# Altium schematic symbol library dungvh03-CERN_Connectors.SchLib: 576 symbols (part 2 of 8)
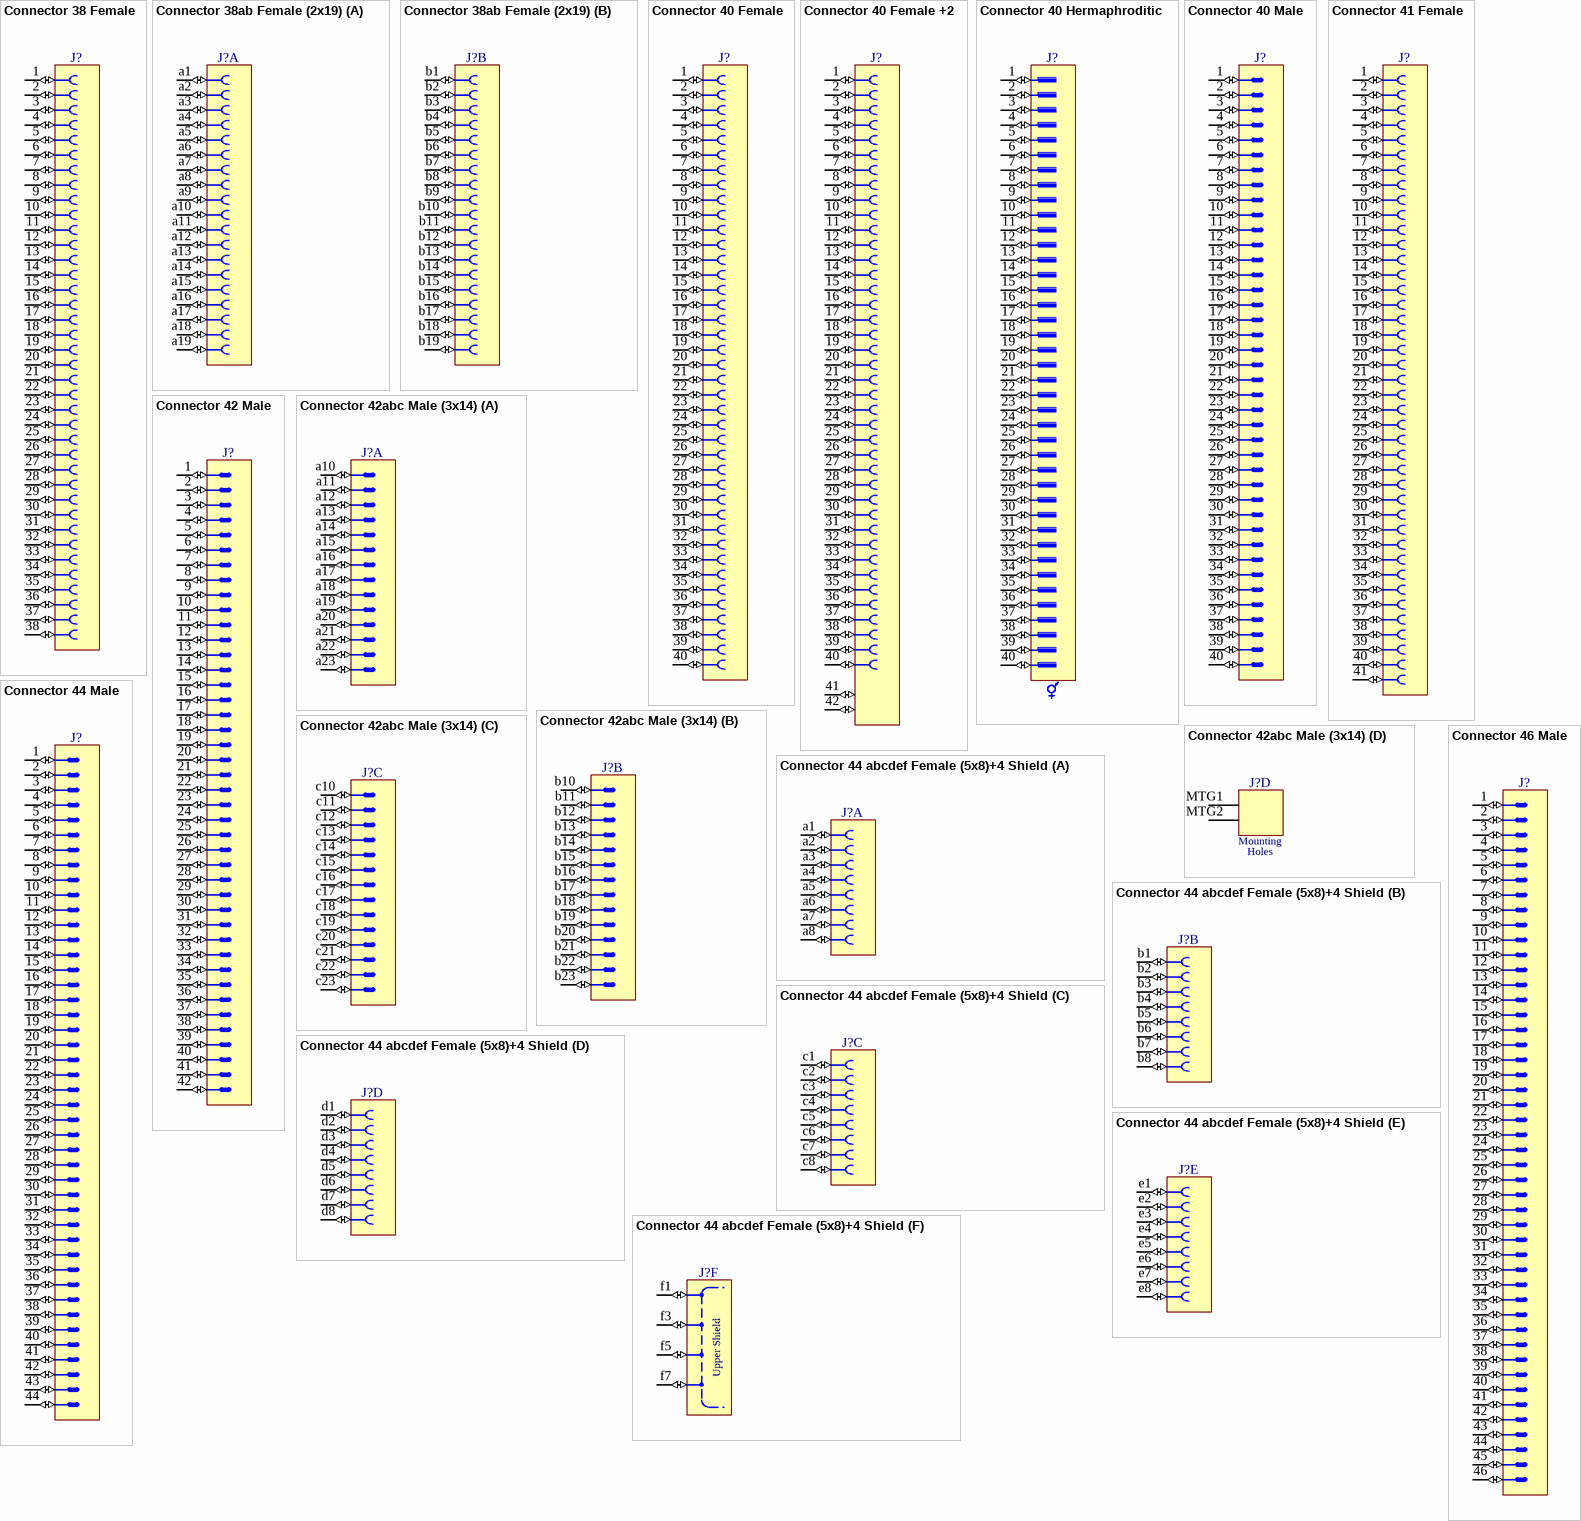
[diagram p76: symbols Connector 38 Female to Connector 46 Male]

## Connector 44 Male
designator J?
Connector 44 Male
pins: 1 (io), 2 (io), 3 (io), 4 (io), 5 (io), 6 (io), 7 (io), 8 (io), 9 (io), 10 (io), 11 (io), 12 (io), 13 (io), 14 (io), 15 (io), 16 (io), 17 (io), 18 (io), 19 (io), 20 (io), 21 (io), 22 (io), 23 (io), 24 (io), 25 (io), 26 (io), 27 (io), 28 (io), 29 (io), 30 (io), 31 (io), 32 (io), 33 (io), 34 (io), 35 (io), 36 (io), 37 (io), 38 (io), 39 (io), 40 (io), 41 (io), 42 (io), 43 (io), 44 (io)
1 alternate drawing of the same symbol

## Connector 46 Male
designator J?
Connector 46 Male
pins: 1 (io), 2 (io), 3 (io), 4 (io), 5 (io), 6 (io), 7 (io), 8 (io), 9 (io), 10 (io), 11 (io), 12 (io), 13 (io), 14 (io), 15 (io), 16 (io), 17 (io), 18 (io), 19 (io), 20 (io), 21 (io), 22 (io), 23 (io), 24 (io), 25 (io), 26 (io), 27 (io), 28 (io), 29 (io), 30 (io), 31 (io), 32 (io), 33 (io), 34 (io), 35 (io), 36 (io), 37 (io), 38 (io), 39 (io), 40 (io), 41 (io), 42 (io), 43 (io), 44 (io), 45 (io), 46 (io)
1 alternate drawing of the same symbol

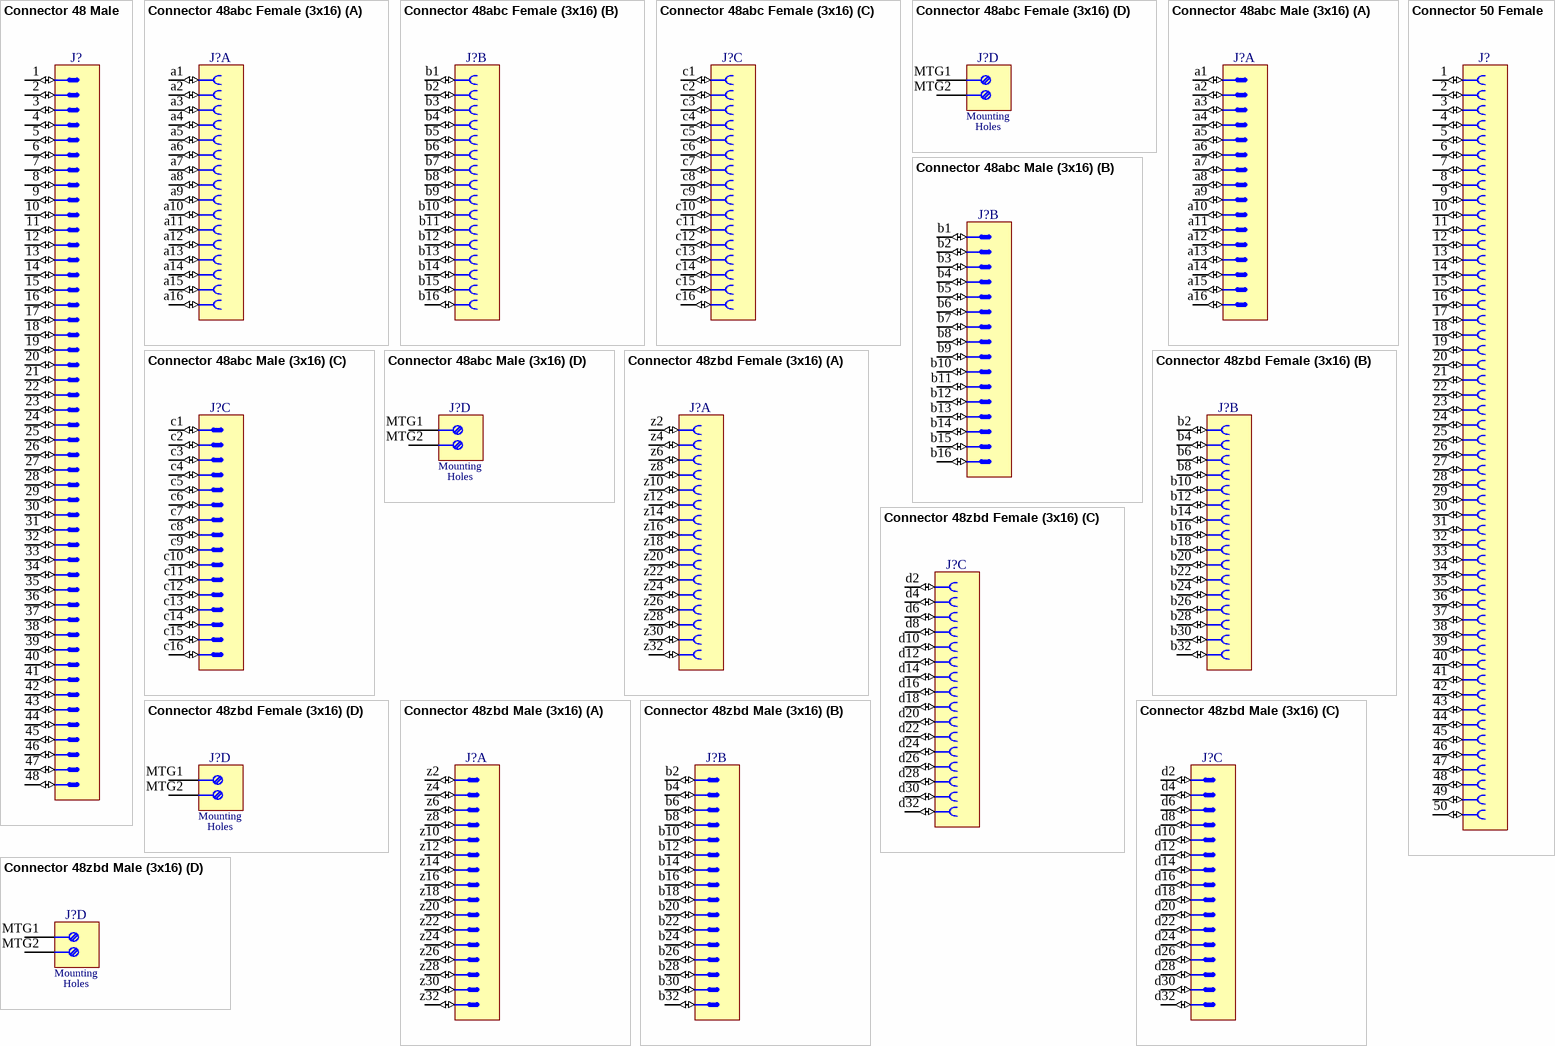
[diagram p9: symbols Connector 48 Male to Connector 50 Female]

## Connector 48 Male
designator J?
Connector 48 Male
pins: 1 (io), 2 (io), 3 (io), 4 (io), 5 (io), 6 (io), 7 (io), 8 (io), 9 (io), 10 (io), 11 (io), 12 (io), 13 (io), 14 (io), 15 (io), 16 (io), 17 (io), 18 (io), 19 (io), 20 (io), 21 (io), 22 (io), 23 (io), 24 (io), 25 (io), 26 (io), 27 (io), 28 (io), 29 (io), 30 (io), 31 (io), 32 (io), 33 (io), 34 (io), 35 (io), 36 (io), 37 (io), 38 (io), 39 (io), 40 (io), 41 (io), 42 (io), 43 (io), 44 (io), 45 (io), 46 (io), 47 (io), 48 (io)
1 alternate drawing of the same symbol

## Connector 48abc Female (3x16)
designator J?
Connector 48abc Female (3x16)
part A pins: a1 (io), a2 (io), a3 (io), a4 (io), a5 (io), a6 (io), a7 (io), a8 (io), a9 (io), a10 (io), a11 (io), a12 (io), a13 (io), a14 (io), a15 (io), a16 (io)
part B pins: b1 (io), b2 (io), b3 (io), b4 (io), b5 (io), b6 (io), b7 (io), b8 (io), b9 (io), b10 (io), b11 (io), b12 (io), b13 (io), b14 (io), b15 (io), b16 (io)
part C pins: c1 (io), c2 (io), c3 (io), c4 (io), c5 (io), c6 (io), c7 (io), c8 (io), c9 (io), c10 (io), c11 (io), c12 (io), c13 (io), c14 (io), c15 (io), c16 (io)
part D pins: MTG1 "Mounting Fixture", MTG2 "Mounting Fixture"
part D text: Mounting; Holes

## Connector 48abc Male (3x16)
designator J?
Connector 48abc Male (3x16)
part A pins: a1 (io), a2 (io), a3 (io), a4 (io), a5 (io), a6 (io), a7 (io), a8 (io), a9 (io), a10 (io), a11 (io), a12 (io), a13 (io), a14 (io), a15 (io), a16 (io)
part B pins: b1 (io), b2 (io), b3 (io), b4 (io), b5 (io), b6 (io), b7 (io), b8 (io), b9 (io), b10 (io), b11 (io), b12 (io), b13 (io), b14 (io), b15 (io), b16 (io)
part C pins: c1 (io), c2 (io), c3 (io), c4 (io), c5 (io), c6 (io), c7 (io), c8 (io), c9 (io), c10 (io), c11 (io), c12 (io), c13 (io), c14 (io), c15 (io), c16 (io)
part D pins: MTG1 "Mounting Fixture", MTG2 "Mounting Fixture"
part D text: Mounting; Holes

## Connector 48zbd Female (3x16)
designator J?
Connector 48zbd Female, DIN 41612 Type F
part A pins: z2 (io), z4 (io), z6 (io), z8 (io), z10 (io), z12 (io), z14 (io), z16 (io), z18 (io), z20 (io), z22 (io), z24 (io), z26 (io), z28 (io), z30 (io), z32 (io)
part B pins: b2 (io), b4 (io), b6 (io), b8 (io), b10 (io), b12 (io), b14 (io), b16 (io), b18 (io), b20 (io), b22 (io), b24 (io), b26 (io), b28 (io), b30 (io), b32 (io)
part C pins: d2 (io), d4 (io), d6 (io), d8 (io), d10 (io), d12 (io), d14 (io), d16 (io), d18 (io), d20 (io), d22 (io), d24 (io), d26 (io), d28 (io), d30 (io), d32 (io)
part D pins: MTG1 "Mounting Fixture", MTG2 "Mounting Fixture"
part D text: Mounting; Holes

## Connector 48zbd Male (3x16)
designator J?
Connector 48zbd Male, DIN 41612 Type F
part A pins: z2 (io), z4 (io), z6 (io), z8 (io), z10 (io), z12 (io), z14 (io), z16 (io), z18 (io), z20 (io), z22 (io), z24 (io), z26 (io), z28 (io), z30 (io), z32 (io)
part B pins: b2 (io), b4 (io), b6 (io), b8 (io), b10 (io), b12 (io), b14 (io), b16 (io), b18 (io), b20 (io), b22 (io), b24 (io), b26 (io), b28 (io), b30 (io), b32 (io)
part C pins: d2 (io), d4 (io), d6 (io), d8 (io), d10 (io), d12 (io), d14 (io), d16 (io), d18 (io), d20 (io), d22 (io), d24 (io), d26 (io), d28 (io), d30 (io), d32 (io)
part D pins: MTG1 "Mounting Fixture", MTG2 "Mounting Fixture"
part D text: Mounting; Holes

## Connector 50 Female
designator J?
Connector 50 Female
pins: 1 (io), 2 (io), 3 (io), 4 (io), 5 (io), 6 (io), 7 (io), 8 (io), 9 (io), 10 (io), 11 (io), 12 (io), 13 (io), 14 (io), 15 (io), 16 (io), 17 (io), 18 (io), 19 (io), 20 (io), 21 (io), 22 (io), 23 (io), 24 (io), 25 (io), 26 (io), 27 (io), 28 (io), 29 (io), 30 (io), 31 (io), 32 (io), 33 (io), 34 (io), 35 (io), 36 (io), 37 (io), 38 (io), 39 (io), 40 (io), 41 (io), 42 (io), 43 (io), 44 (io), 45 (io), 46 (io), 47 (io), 48 (io), 49 (io), 50 (io)
1 alternate drawing of the same symbol

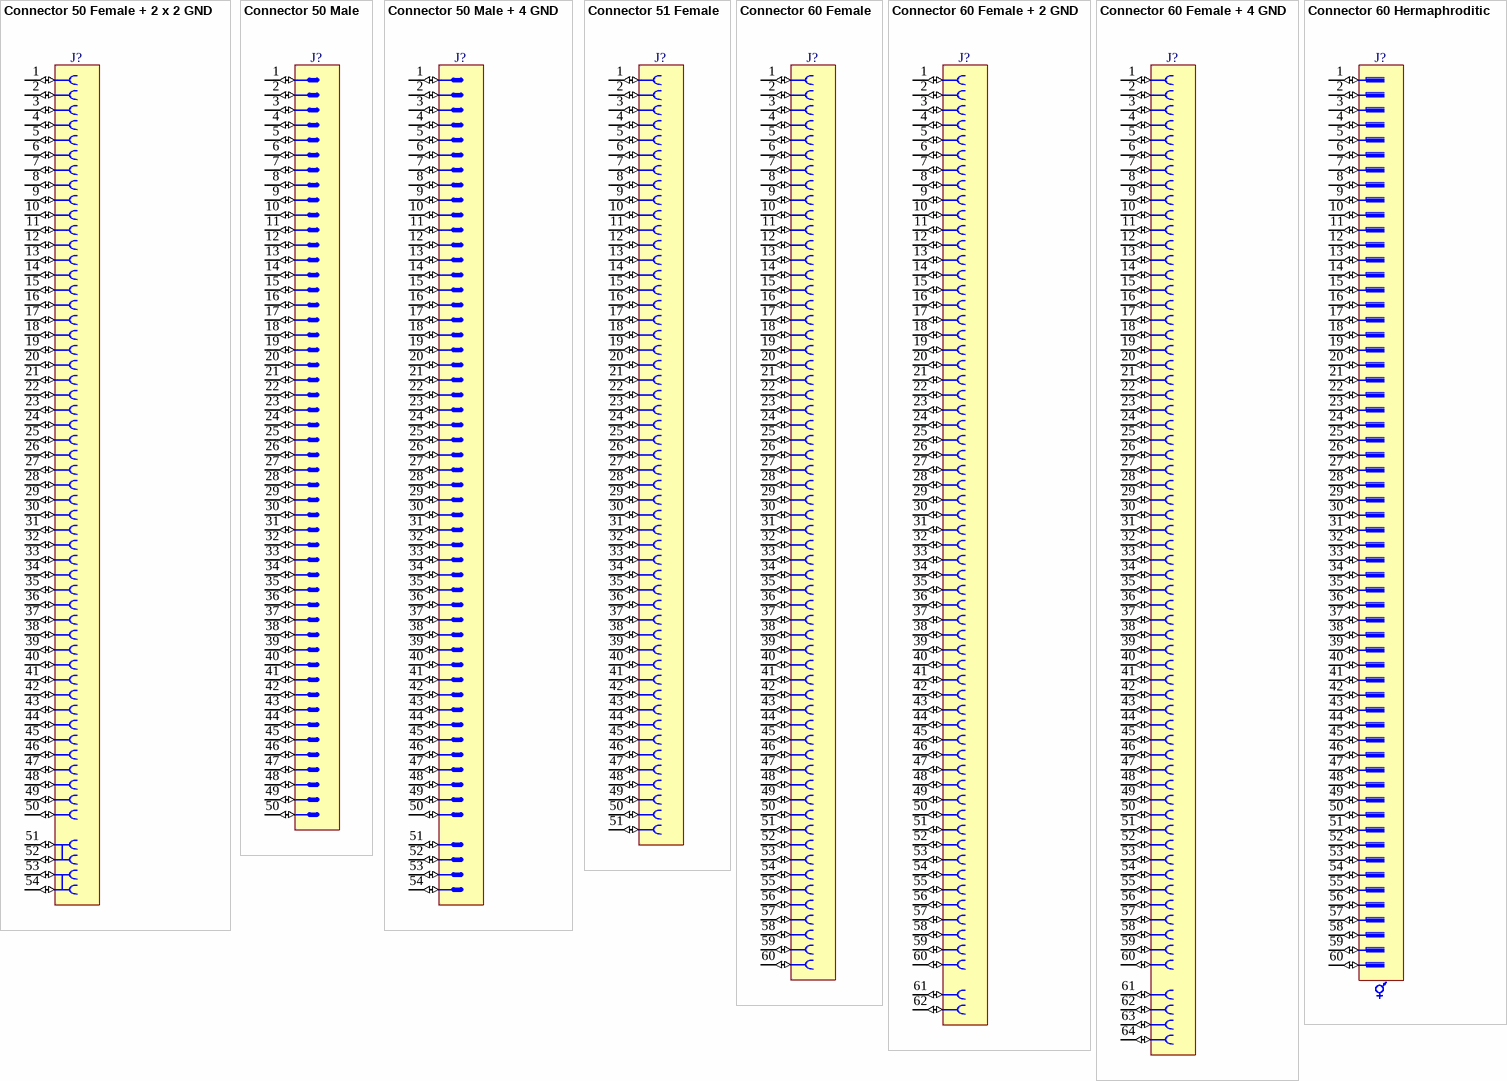
[diagram p10: symbols Connector 50 Female + 2 x 2 GND to Connector 60 Hermaphroditic]

## Connector 50 Female + 2 x 2 GND
designator J?
Connector 50 Female + 2 x 2 GND
pins: 1 (io), 2 (io), 3 (io), 4 (io), 5 (io), 6 (io), 7 (io), 8 (io), 9 (io), 10 (io), 11 (io), 12 (io), 13 (io), 14 (io), 15 (io), 16 (io), 17 (io), 18 (io), 19 (io), 20 (io), 21 (io), 22 (io), 23 (io), 24 (io), 25 (io), 26 (io), 27 (io), 28 (io), 29 (io), 30 (io), 31 (io), 32 (io), 33 (io), 34 (io), 35 (io), 36 (io), 37 (io), 38 (io), 39 (io), 40 (io), 41 (io), 42 (io), 43 (io), 44 (io), 45 (io), 46 (io), 47 (io), 48 (io), 49 (io), 50 (io), 51 (io), 52 (io), 53 (io), 54 (io)
1 alternate drawing of the same symbol

## Connector 50 Male
designator J?
Connector 50 Male
pins: 1 (io), 2 (io), 3 (io), 4 (io), 5 (io), 6 (io), 7 (io), 8 (io), 9 (io), 10 (io), 11 (io), 12 (io), 13 (io), 14 (io), 15 (io), 16 (io), 17 (io), 18 (io), 19 (io), 20 (io), 21 (io), 22 (io), 23 (io), 24 (io), 25 (io), 26 (io), 27 (io), 28 (io), 29 (io), 30 (io), 31 (io), 32 (io), 33 (io), 34 (io), 35 (io), 36 (io), 37 (io), 38 (io), 39 (io), 40 (io), 41 (io), 42 (io), 43 (io), 44 (io), 45 (io), 46 (io), 47 (io), 48 (io), 49 (io), 50 (io)
1 alternate drawing of the same symbol

## Connector 50 Male + 4 GND
designator J?
Connector 50 Male + 4 GND
pins: 1 (io), 2 (io), 3 (io), 4 (io), 5 (io), 6 (io), 7 (io), 8 (io), 9 (io), 10 (io), 11 (io), 12 (io), 13 (io), 14 (io), 15 (io), 16 (io), 17 (io), 18 (io), 19 (io), 20 (io), 21 (io), 22 (io), 23 (io), 24 (io), 25 (io), 26 (io), 27 (io), 28 (io), 29 (io), 30 (io), 31 (io), 32 (io), 33 (io), 34 (io), 35 (io), 36 (io), 37 (io), 38 (io), 39 (io), 40 (io), 41 (io), 42 (io), 43 (io), 44 (io), 45 (io), 46 (io), 47 (io), 48 (io), 49 (io), 50 (io), 51 (io), 52 (io), 53 (io), 54 (io)
1 alternate drawing of the same symbol

## Connector 51 Female
designator J?
Connector 51 Female
pins: 1 (io), 2 (io), 3 (io), 4 (io), 5 (io), 6 (io), 7 (io), 8 (io), 9 (io), 10 (io), 11 (io), 12 (io), 13 (io), 14 (io), 15 (io), 16 (io), 17 (io), 18 (io), 19 (io), 20 (io), 21 (io), 22 (io), 23 (io), 24 (io), 25 (io), 26 (io), 27 (io), 28 (io), 29 (io), 30 (io), 31 (io), 32 (io), 33 (io), 34 (io), 35 (io), 36 (io), 37 (io), 38 (io), 39 (io), 40 (io), 41 (io), 42 (io), 43 (io), 44 (io), 45 (io), 46 (io), 47 (io), 48 (io), 49 (io), 50 (io), 51 (io)
1 alternate drawing of the same symbol

## Connector 60 Female
designator J?
Connector 60 Female
pins: 1 (io), 2 (io), 3 (io), 4 (io), 5 (io), 6 (io), 7 (io), 8 (io), 9 (io), 10 (io), 11 (io), 12 (io), 13 (io), 14 (io), 15 (io), 16 (io), 17 (io), 18 (io), 19 (io), 20 (io), 21 (io), 22 (io), 23 (io), 24 (io), 25 (io), 26 (io), 27 (io), 28 (io), 29 (io), 30 (io), 31 (io), 32 (io), 33 (io), 34 (io), 35 (io), 36 (io), 37 (io), 38 (io), 39 (io), 40 (io), 41 (io), 42 (io), 43 (io), 44 (io), 45 (io), 46 (io), 47 (io), 48 (io), 49 (io), 50 (io), 51 (io), 52 (io), 53 (io), 54 (io), 55 (io), 56 (io), 57 (io), 58 (io), 59 (io), 60 (io)
1 alternate drawing of the same symbol

## Connector 60 Female + 2 GND
designator J?
Connector 60 Female + 2 GND
pins: 1 (io), 2 (io), 3 (io), 4 (io), 5 (io), 6 (io), 7 (io), 8 (io), 9 (io), 10 (io), 11 (io), 12 (io), 13 (io), 14 (io), 15 (io), 16 (io), 17 (io), 18 (io), 19 (io), 20 (io), 21 (io), 22 (io), 23 (io), 24 (io), 25 (io), 26 (io), 27 (io), 28 (io), 29 (io), 30 (io), 31 (io), 32 (io), 33 (io), 34 (io), 35 (io), 36 (io), 37 (io), 38 (io), 39 (io), 40 (io), 41 (io), 42 (io), 43 (io), 44 (io), 45 (io), 46 (io), 47 (io), 48 (io), 49 (io), 50 (io), 51 (io), 52 (io), 53 (io), 54 (io), 55 (io), 56 (io), 57 (io), 58 (io), 59 (io), 60 (io), 61 (io), 62 (io)
1 alternate drawing of the same symbol

## Connector 60 Female + 4 GND
designator J?
Connector 60 Female + 4 GND
pins: 1 (io), 2 (io), 3 (io), 4 (io), 5 (io), 6 (io), 7 (io), 8 (io), 9 (io), 10 (io), 11 (io), 12 (io), 13 (io), 14 (io), 15 (io), 16 (io), 17 (io), 18 (io), 19 (io), 20 (io), 21 (io), 22 (io), 23 (io), 24 (io), 25 (io), 26 (io), 27 (io), 28 (io), 29 (io), 30 (io), 31 (io), 32 (io), 33 (io), 34 (io), 35 (io), 36 (io), 37 (io), 38 (io), 39 (io), 40 (io), 41 (io), 42 (io), 43 (io), 44 (io), 45 (io), 46 (io), 47 (io), 48 (io), 49 (io), 50 (io), 51 (io), 52 (io), 53 (io), 54 (io), 55 (io), 56 (io), 57 (io), 58 (io), 59 (io), 60 (io), 61 (io), 62 (io), 63 (io), 64 (io)
1 alternate drawing of the same symbol

## Connector 60 Hermaphroditic
designator J?
Connector 60 Hermaphroditic
pins: 1 (io), 2 (io), 3 (io), 4 (io), 5 (io), 6 (io), 7 (io), 8 (io), 9 (io), 10 (io), 11 (io), 12 (io), 13 (io), 14 (io), 15 (io), 16 (io), 17 (io), 18 (io), 19 (io), 20 (io), 21 (io), 22 (io), 23 (io), 24 (io), 25 (io), 26 (io), 27 (io), 28 (io), 29 (io), 30 (io), 31 (io), 32 (io), 33 (io), 34 (io), 35 (io), 36 (io), 37 (io), 38 (io), 39 (io), 40 (io), 41 (io), 42 (io), 43 (io), 44 (io), 45 (io), 46 (io), 47 (io), 48 (io), 49 (io), 50 (io), 51 (io), 52 (io), 53 (io), 54 (io), 55 (io), 56 (io), 57 (io), 58 (io), 59 (io), 60 (io)
1 alternate drawing of the same symbol

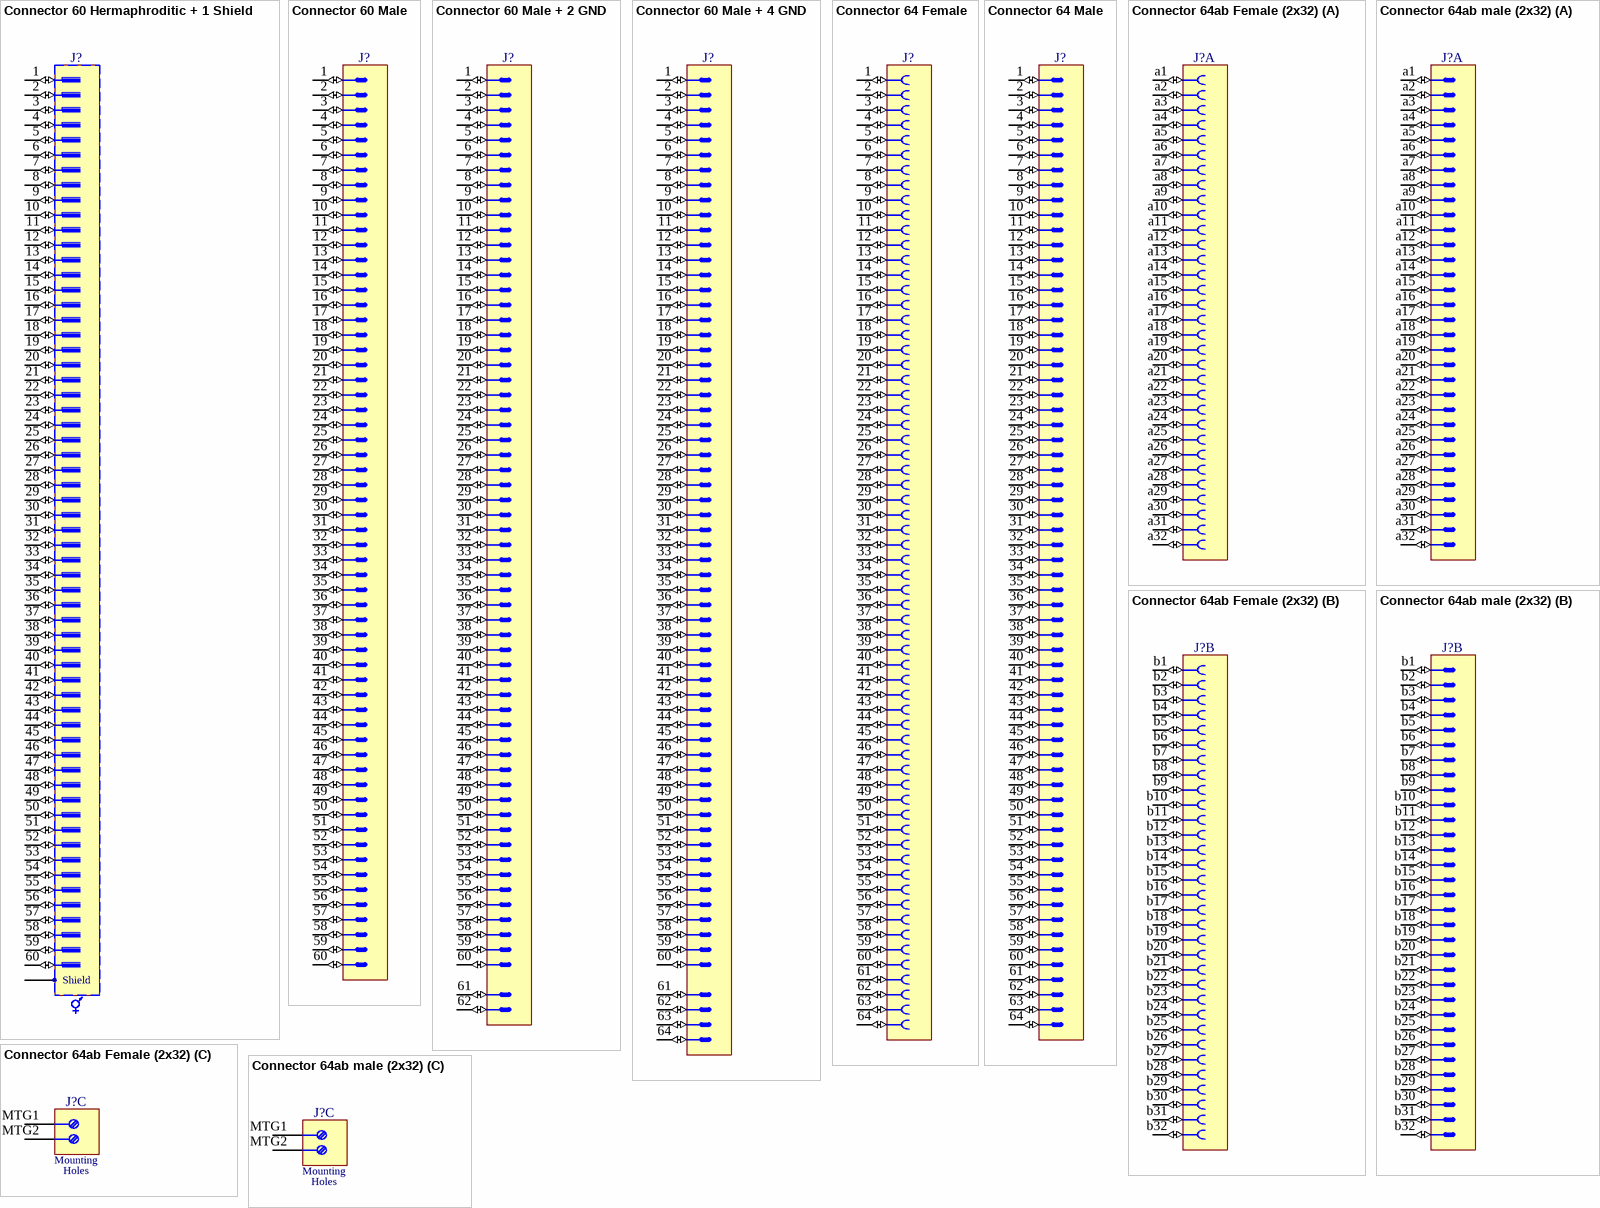
[diagram p11: symbols Connector 60 Hermaphroditic + 1 Shield to Connector 64ab male (2x32)]

## Connector 60 Hermaphroditic + 1 Shield
designator J?
Connector 60 Hermaphroditic + 1 Shield
pins: 1 (io), 2 (io), 3 (io), 4 (io), 5 (io), 6 (io), 7 (io), 8 (io), 9 (io), 10 (io), 11 (io), 12 (io), 13 (io), 14 (io), 15 (io), 16 (io), 17 (io), 18 (io), 19 (io), 20 (io), 21 (io), 22 (io), 23 (io), 24 (io), 25 (io), 26 (io), 27 (io), 28 (io), 29 (io), 30 (io), 31 (io), 32 (io), 33 (io), 34 (io), 35 (io), 36 (io), 37 (io), 38 (io), 39 (io), 40 (io), 41 (io), 42 (io), 43 (io), 44 (io), 45 (io), 46 (io), 47 (io), 48 (io), 49 (io), 50 (io), 51 (io), 52 (io), 53 (io), 54 (io), 55 (io), 56 (io), 57 (io), 58 (io), 59 (io), 60 (io), 61 Shield (power)
1 alternate drawing of the same symbol

## Connector 60 Male
designator J?
Connector 60 Male
pins: 1 (io), 2 (io), 3 (io), 4 (io), 5 (io), 6 (io), 7 (io), 8 (io), 9 (io), 10 (io), 11 (io), 12 (io), 13 (io), 14 (io), 15 (io), 16 (io), 17 (io), 18 (io), 19 (io), 20 (io), 21 (io), 22 (io), 23 (io), 24 (io), 25 (io), 26 (io), 27 (io), 28 (io), 29 (io), 30 (io), 31 (io), 32 (io), 33 (io), 34 (io), 35 (io), 36 (io), 37 (io), 38 (io), 39 (io), 40 (io), 41 (io), 42 (io), 43 (io), 44 (io), 45 (io), 46 (io), 47 (io), 48 (io), 49 (io), 50 (io), 51 (io), 52 (io), 53 (io), 54 (io), 55 (io), 56 (io), 57 (io), 58 (io), 59 (io), 60 (io)
1 alternate drawing of the same symbol

## Connector 60 Male + 2 GND
designator J?
Connector 60 Male + 2 GND
pins: 1 (io), 2 (io), 3 (io), 4 (io), 5 (io), 6 (io), 7 (io), 8 (io), 9 (io), 10 (io), 11 (io), 12 (io), 13 (io), 14 (io), 15 (io), 16 (io), 17 (io), 18 (io), 19 (io), 20 (io), 21 (io), 22 (io), 23 (io), 24 (io), 25 (io), 26 (io), 27 (io), 28 (io), 29 (io), 30 (io), 31 (io), 32 (io), 33 (io), 34 (io), 35 (io), 36 (io), 37 (io), 38 (io), 39 (io), 40 (io), 41 (io), 42 (io), 43 (io), 44 (io), 45 (io), 46 (io), 47 (io), 48 (io), 49 (io), 50 (io), 51 (io), 52 (io), 53 (io), 54 (io), 55 (io), 56 (io), 57 (io), 58 (io), 59 (io), 60 (io), 61 (io), 62 (io)
1 alternate drawing of the same symbol

## Connector 60 Male + 4 GND
designator J?
Connector 60 Male + 4 GND
pins: 1 (io), 2 (io), 3 (io), 4 (io), 5 (io), 6 (io), 7 (io), 8 (io), 9 (io), 10 (io), 11 (io), 12 (io), 13 (io), 14 (io), 15 (io), 16 (io), 17 (io), 18 (io), 19 (io), 20 (io), 21 (io), 22 (io), 23 (io), 24 (io), 25 (io), 26 (io), 27 (io), 28 (io), 29 (io), 30 (io), 31 (io), 32 (io), 33 (io), 34 (io), 35 (io), 36 (io), 37 (io), 38 (io), 39 (io), 40 (io), 41 (io), 42 (io), 43 (io), 44 (io), 45 (io), 46 (io), 47 (io), 48 (io), 49 (io), 50 (io), 51 (io), 52 (io), 53 (io), 54 (io), 55 (io), 56 (io), 57 (io), 58 (io), 59 (io), 60 (io), 61 (io), 62 (io), 63 (io), 64 (io)
1 alternate drawing of the same symbol

## Connector 64 Female
designator J?
Connector 64 Female
pins: 1 (io), 2 (io), 3 (io), 4 (io), 5 (io), 6 (io), 7 (io), 8 (io), 9 (io), 10 (io), 11 (io), 12 (io), 13 (io), 14 (io), 15 (io), 16 (io), 17 (io), 18 (io), 19 (io), 20 (io), 21 (io), 22 (io), 23 (io), 24 (io), 25 (io), 26 (io), 27 (io), 28 (io), 29 (io), 30 (io), 31 (io), 32 (io), 33 (io), 34 (io), 35 (io), 36 (io), 37 (io), 38 (io), 39 (io), 40 (io), 41 (io), 42 (io), 43 (io), 44 (io), 45 (io), 46 (io), 47 (io), 48 (io), 49 (io), 50 (io), 51 (io), 52 (io), 53 (io), 54 (io), 55 (io), 56 (io), 57 (io), 58 (io), 59 (io), 60 (io), 61 (io), 62 (io), 63 (io), 64 (io)
1 alternate drawing of the same symbol

## Connector 64 Male
designator J?
Connector 64 Male
pins: 1 (io), 2 (io), 3 (io), 4 (io), 5 (io), 6 (io), 7 (io), 8 (io), 9 (io), 10 (io), 11 (io), 12 (io), 13 (io), 14 (io), 15 (io), 16 (io), 17 (io), 18 (io), 19 (io), 20 (io), 21 (io), 22 (io), 23 (io), 24 (io), 25 (io), 26 (io), 27 (io), 28 (io), 29 (io), 30 (io), 31 (io), 32 (io), 33 (io), 34 (io), 35 (io), 36 (io), 37 (io), 38 (io), 39 (io), 40 (io), 41 (io), 42 (io), 43 (io), 44 (io), 45 (io), 46 (io), 47 (io), 48 (io), 49 (io), 50 (io), 51 (io), 52 (io), 53 (io), 54 (io), 55 (io), 56 (io), 57 (io), 58 (io), 59 (io), 60 (io), 61 (io), 62 (io), 63 (io), 64 (io)
1 alternate drawing of the same symbol

## Connector 64ab Female (2x32)
designator J?
Connector 64ab Female (2x32)
part A pins: a1 (io), a2 (io), a3 (io), a4 (io), a5 (io), a6 (io), a7 (io), a8 (io), a9 (io), a10 (io), a11 (io), a12 (io), a13 (io), a14 (io), a15 (io), a16 (io), a17 (io), a18 (io), a19 (io), a20 (io), a21 (io), a22 (io), a23 (io), a24 (io), a25 (io), a26 (io), a27 (io), a28 (io), a29 (io), a30 (io), a31 (io), a32 (io)
part B pins: b1 (io), b2 (io), b3 (io), b4 (io), b5 (io), b6 (io), b7 (io), b8 (io), b9 (io), b10 (io), b11 (io), b12 (io), b13 (io), b14 (io), b15 (io), b16 (io), b17 (io), b18 (io), b19 (io), b20 (io), b21 (io), b22 (io), b23 (io), b24 (io), b25 (io), b26 (io), b27 (io), b28 (io), b29 (io), b30 (io), b31 (io), b32 (io)
part C pins: MTG1 "Mounting Fixture", MTG2 "Mounting Fixture"
part C text: Mounting; Holes

## Connector 64ab male (2x32)
designator J?
Connector 64ab male (2x32)
part A pins: a1 (io), a2 (io), a3 (io), a4 (io), a5 (io), a6 (io), a7 (io), a8 (io), a9 (io), a10 (io), a11 (io), a12 (io), a13 (io), a14 (io), a15 (io), a16 (io), a17 (io), a18 (io), a19 (io), a20 (io), a21 (io), a22 (io), a23 (io), a24 (io), a25 (io), a26 (io), a27 (io), a28 (io), a29 (io), a30 (io), a31 (io), a32 (io)
part B pins: b1 (io), b2 (io), b3 (io), b4 (io), b5 (io), b6 (io), b7 (io), b8 (io), b9 (io), b10 (io), b11 (io), b12 (io), b13 (io), b14 (io), b15 (io), b16 (io), b17 (io), b18 (io), b19 (io), b20 (io), b21 (io), b22 (io), b23 (io), b24 (io), b25 (io), b26 (io), b27 (io), b28 (io), b29 (io), b30 (io), b31 (io), b32 (io)
part C pins: MTG1 "Mounting Fixture", MTG2 "Mounting Fixture"
part C text: Mounting; Holes

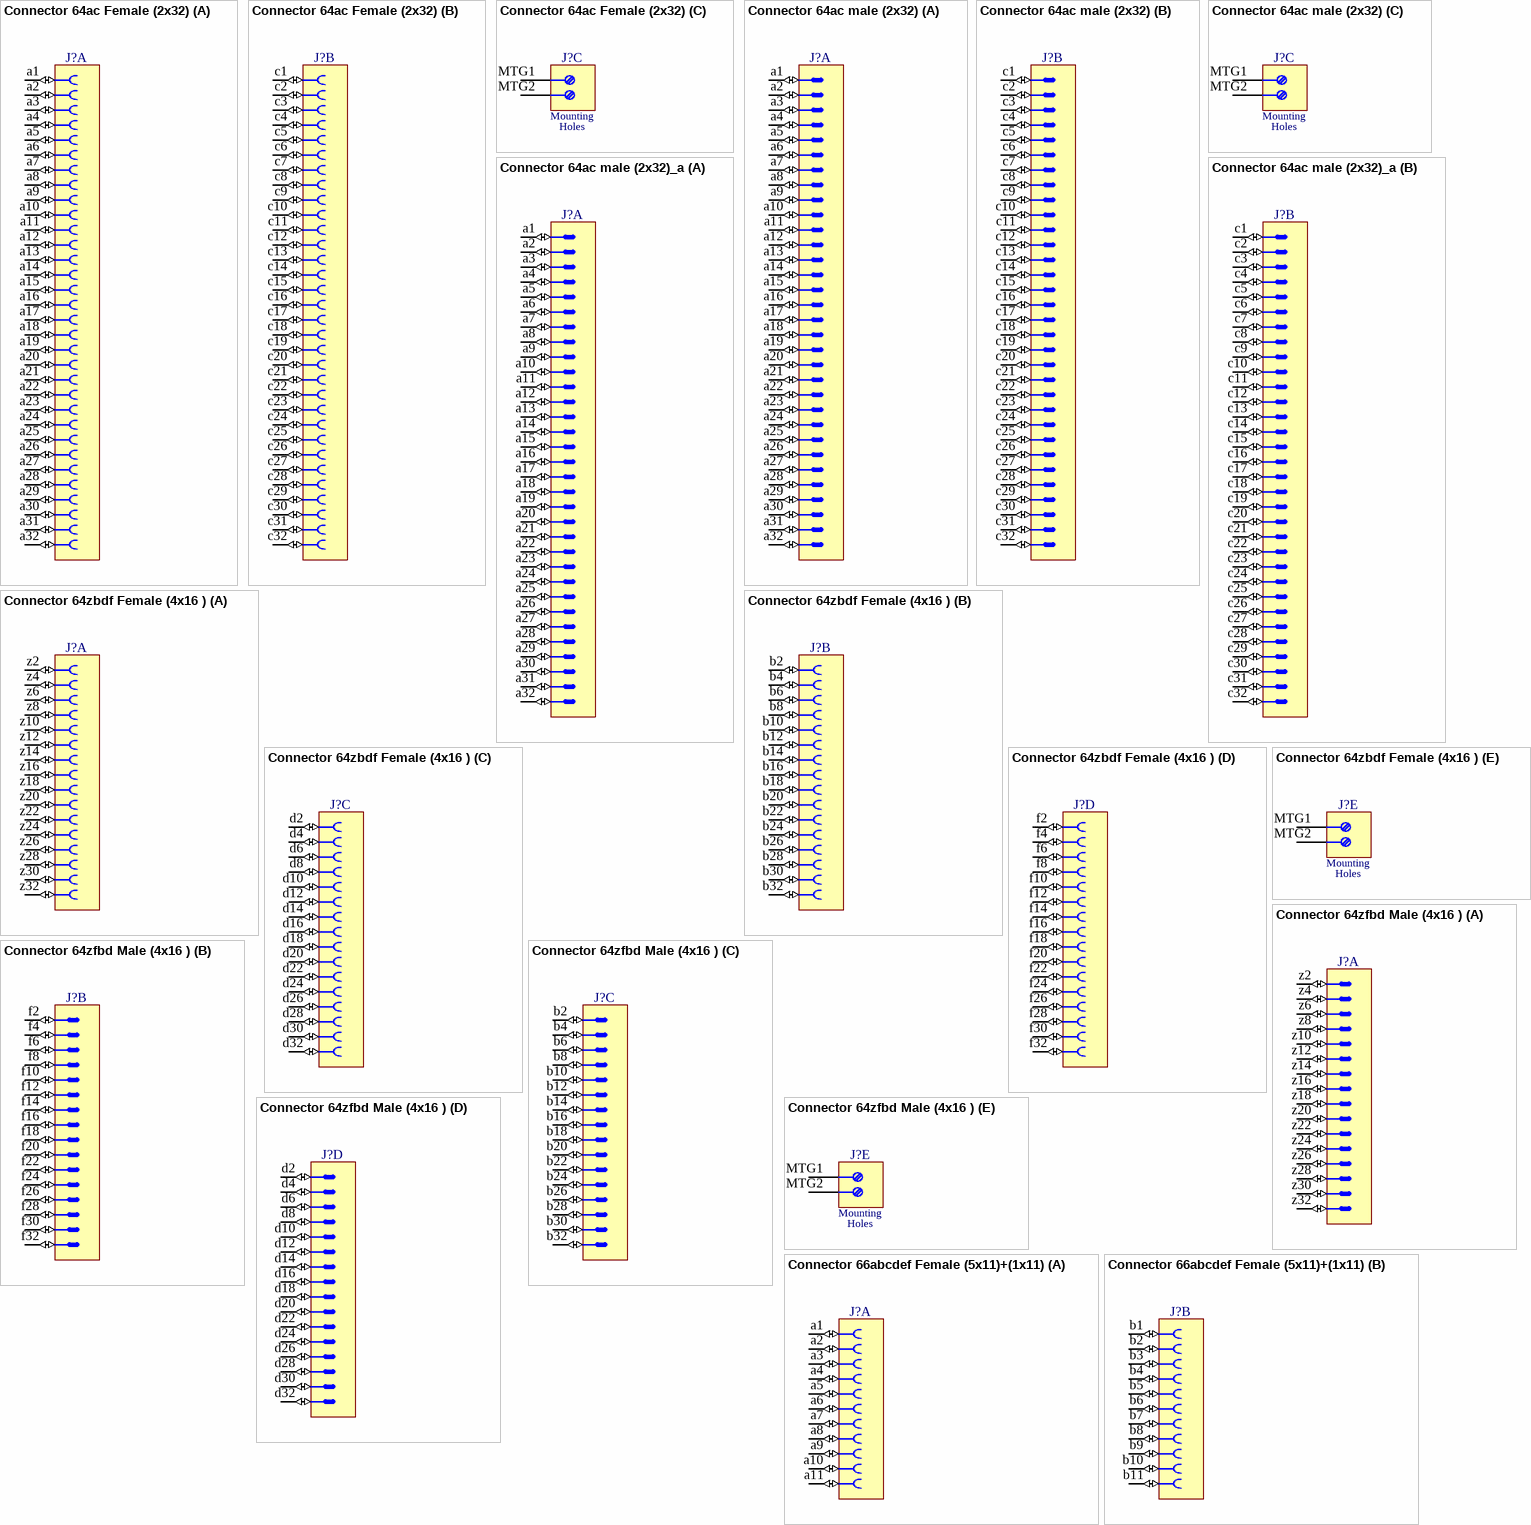
[diagram p12: symbols Connector 64ac Female (2x32) to Connector 66abcdef Female (5x11)+(1x11)]

## Connector 64ac Female (2x32)
designator J?
Connector 64ac Female (2x32)
part A pins: a1 (io), a2 (io), a3 (io), a4 (io), a5 (io), a6 (io), a7 (io), a8 (io), a9 (io), a10 (io), a11 (io), a12 (io), a13 (io), a14 (io), a15 (io), a16 (io), a17 (io), a18 (io), a19 (io), a20 (io), a21 (io), a22 (io), a23 (io), a24 (io), a25 (io), a26 (io), a27 (io), a28 (io), a29 (io), a30 (io), a31 (io), a32 (io)
part B pins: c1 (io), c2 (io), c3 (io), c4 (io), c5 (io), c6 (io), c7 (io), c8 (io), c9 (io), c10 (io), c11 (io), c12 (io), c13 (io), c14 (io), c15 (io), c16 (io), c17 (io), c18 (io), c19 (io), c20 (io), c21 (io), c22 (io), c23 (io), c24 (io), c25 (io), c26 (io), c27 (io), c28 (io), c29 (io), c30 (io), c31 (io), c32 (io)
part C pins: MTG1 "Mounting Fixture", MTG2 "Mounting Fixture"
part C text: Mounting; Holes

## Connector 64ac male (2x32)
designator J?
Connector 64ac male (2x32)
part A pins: a1 (io), a2 (io), a3 (io), a4 (io), a5 (io), a6 (io), a7 (io), a8 (io), a9 (io), a10 (io), a11 (io), a12 (io), a13 (io), a14 (io), a15 (io), a16 (io), a17 (io), a18 (io), a19 (io), a20 (io), a21 (io), a22 (io), a23 (io), a24 (io), a25 (io), a26 (io), a27 (io), a28 (io), a29 (io), a30 (io), a31 (io), a32 (io)
part B pins: c1 (io), c2 (io), c3 (io), c4 (io), c5 (io), c6 (io), c7 (io), c8 (io), c9 (io), c10 (io), c11 (io), c12 (io), c13 (io), c14 (io), c15 (io), c16 (io), c17 (io), c18 (io), c19 (io), c20 (io), c21 (io), c22 (io), c23 (io), c24 (io), c25 (io), c26 (io), c27 (io), c28 (io), c29 (io), c30 (io), c31 (io), c32 (io)
part C pins: MTG1 "Mounting Fixture", MTG2 "Mounting Fixture"
part C text: Mounting; Holes

## Connector 64ac male (2x32)_a
designator J?
Connector 64ac male (2x32)
part A pins: a1 (io), a2 (io), a3 (io), a4 (io), a5 (io), a6 (io), a7 (io), a8 (io), a9 (io), a10 (io), a11 (io), a12 (io), a13 (io), a14 (io), a15 (io), a16 (io), a17 (io), a18 (io), a19 (io), a20 (io), a21 (io), a22 (io), a23 (io), a24 (io), a25 (io), a26 (io), a27 (io), a28 (io), a29 (io), a30 (io), a31 (io), a32 (io)
part B pins: c1 (io), c2 (io), c3 (io), c4 (io), c5 (io), c6 (io), c7 (io), c8 (io), c9 (io), c10 (io), c11 (io), c12 (io), c13 (io), c14 (io), c15 (io), c16 (io), c17 (io), c18 (io), c19 (io), c20 (io), c21 (io), c22 (io), c23 (io), c24 (io), c25 (io), c26 (io), c27 (io), c28 (io), c29 (io), c30 (io), c31 (io), c32 (io)

## Connector 64zbdf Female (4x16 )
designator J?
Connector 64zbdf Female (4x16 )
part A pins: z2 (io), z4 (io), z6 (io), z8 (io), z10 (io), z12 (io), z14 (io), z16 (io), z18 (io), z20 (io), z22 (io), z24 (io), z26 (io), z28 (io), z30 (io), z32 (io)
part B pins: b2 (io), b4 (io), b6 (io), b8 (io), b10 (io), b12 (io), b14 (io), b16 (io), b18 (io), b20 (io), b22 (io), b24 (io), b26 (io), b28 (io), b30 (io), b32 (io)
part C pins: d2 (io), d4 (io), d6 (io), d8 (io), d10 (io), d12 (io), d14 (io), d16 (io), d18 (io), d20 (io), d22 (io), d24 (io), d26 (io), d28 (io), d30 (io), d32 (io)
part D pins: f2 (io), f4 (io), f6 (io), f8 (io), f10 (io), f12 (io), f14 (io), f16 (io), f18 (io), f20 (io), f22 (io), f24 (io), f26 (io), f28 (io), f30 (io), f32 (io)
part E pins: MTG1 "Mounting Fixture", MTG2 "Mounting Fixture"
part E text: Mounting; Holes

## Connector 64zfbd Male (4x16 )
designator J?
Connector 64zfbd Male (4x16 )
part A pins: z2 (io), z4 (io), z6 (io), z8 (io), z10 (io), z12 (io), z14 (io), z16 (io), z18 (io), z20 (io), z22 (io), z24 (io), z26 (io), z28 (io), z30 (io), z32 (io)
part B pins: f2 (io), f4 (io), f6 (io), f8 (io), f10 (io), f12 (io), f14 (io), f16 (io), f18 (io), f20 (io), f22 (io), f24 (io), f26 (io), f28 (io), f30 (io), f32 (io)
part C pins: b2 (io), b4 (io), b6 (io), b8 (io), b10 (io), b12 (io), b14 (io), b16 (io), b18 (io), b20 (io), b22 (io), b24 (io), b26 (io), b28 (io), b30 (io), b32 (io)
part D pins: d2 (io), d4 (io), d6 (io), d8 (io), d10 (io), d12 (io), d14 (io), d16 (io), d18 (io), d20 (io), d22 (io), d24 (io), d26 (io), d28 (io), d30 (io), d32 (io)
part E pins: MTG1 "Mounting Fixture", MTG2 "Mounting Fixture"
part E text: Mounting; Holes

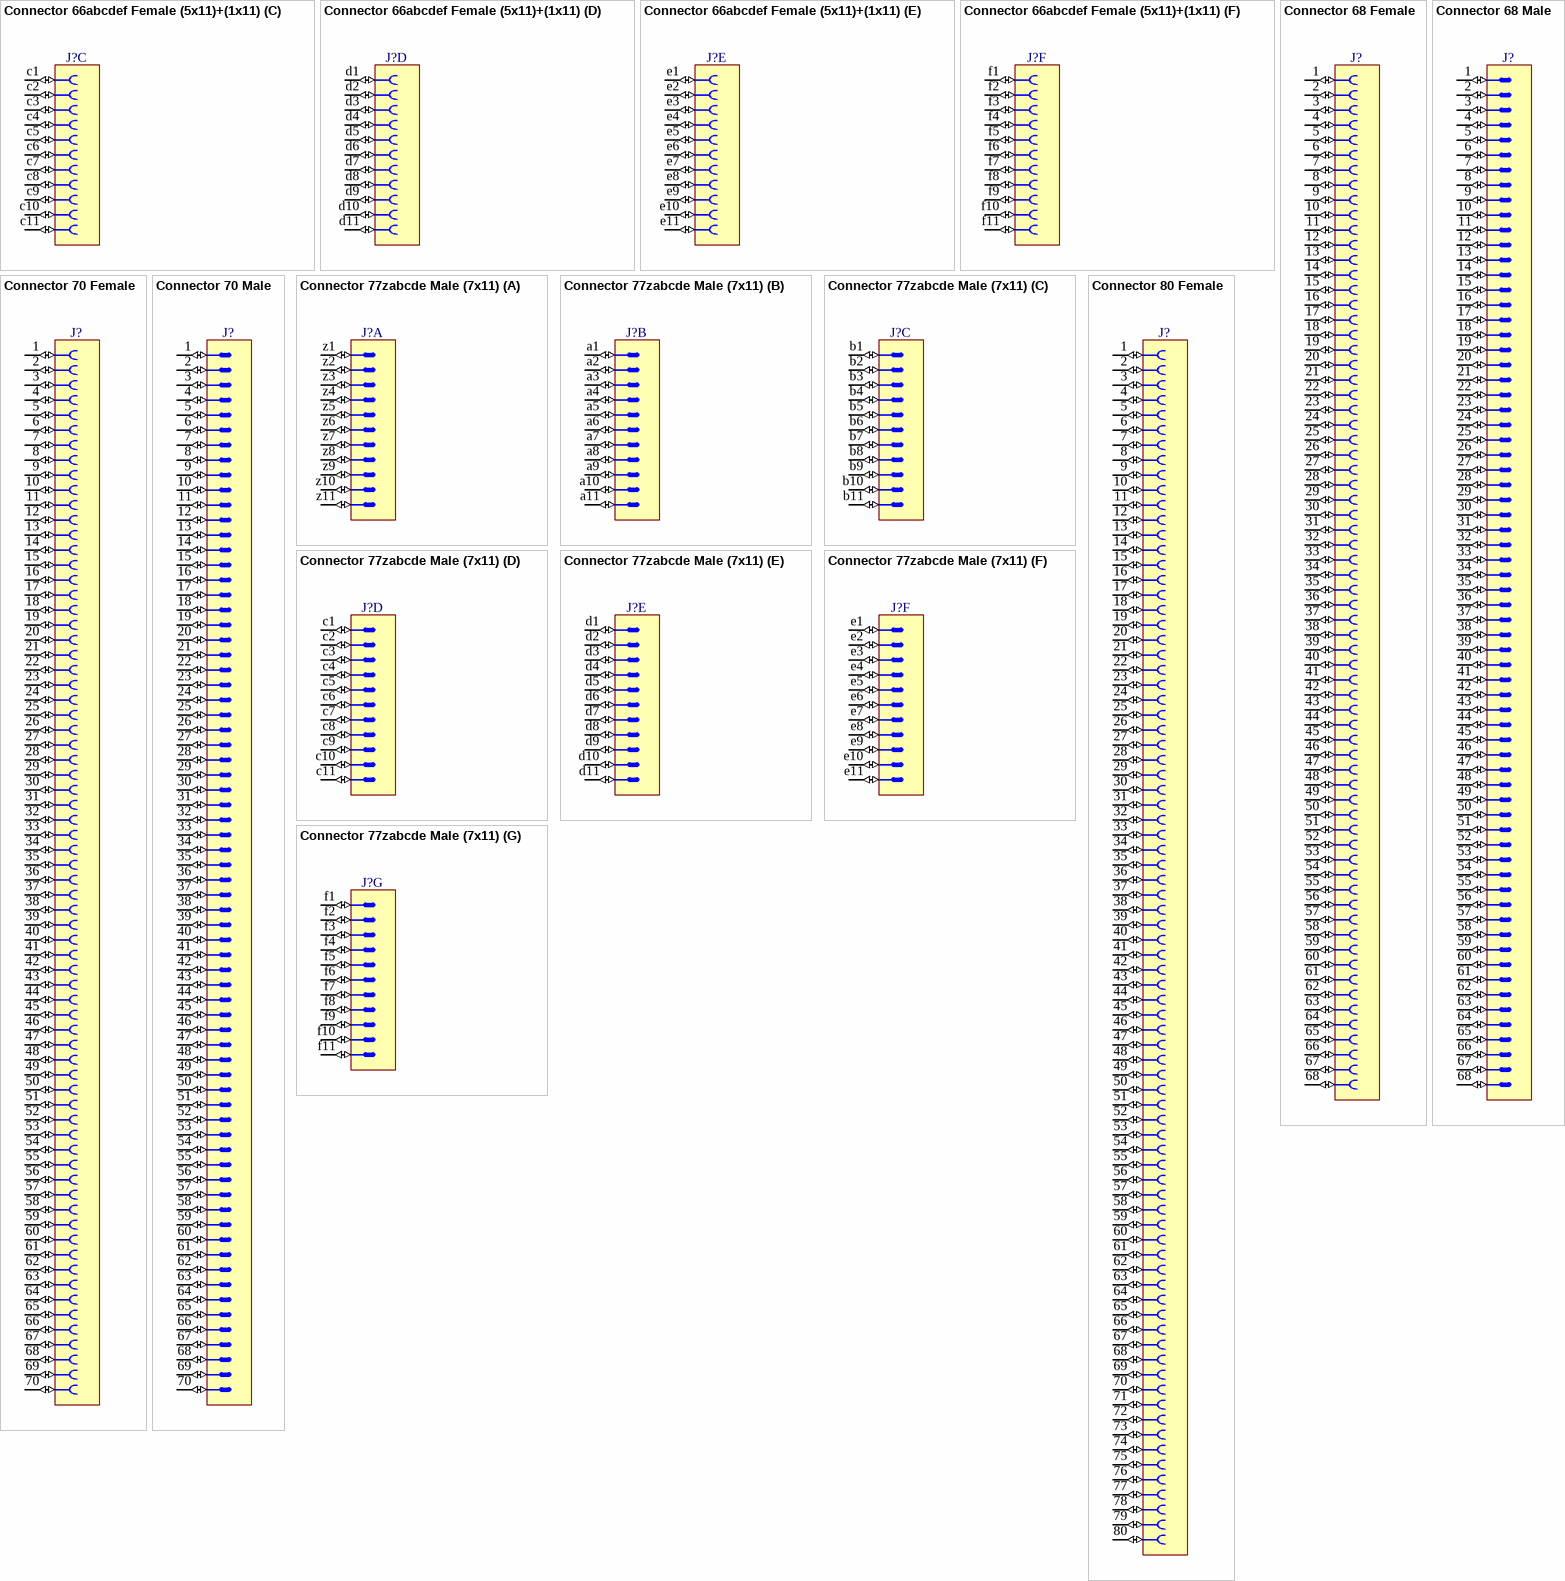
[diagram p13: symbols Connector 66abcdef Female (5x11)+(1x11) to Connector 80 Female]

## Connector 66abcdef Female (5x11)+(1x11)
designator J?
Female Connector, 66 (55+11) Contacts, 5 Rows (abcde) of 11 Contacts + 1 Row (f) of 11 Contacts
part A pins: a1 (io), a2 (io), a3 (io), a4 (io), a5 (io), a6 (io), a7 (io), a8 (io), a9 (io), a10 (io), a11 (io)
part B pins: b1 (io), b2 (io), b3 (io), b4 (io), b5 (io), b6 (io), b7 (io), b8 (io), b9 (io), b10 (io), b11 (io)
part C pins: c1 (io), c2 (io), c3 (io), c4 (io), c5 (io), c6 (io), c7 (io), c8 (io), c9 (io), c10 (io), c11 (io)
part D pins: d1 (io), d2 (io), d3 (io), d4 (io), d5 (io), d6 (io), d7 (io), d8 (io), d9 (io), d10 (io), d11 (io)
part E pins: e1 (io), e2 (io), e3 (io), e4 (io), e5 (io), e6 (io), e7 (io), e8 (io), e9 (io), e10 (io), e11 (io)
part F pins: f1 (io), f2 (io), f3 (io), f4 (io), f5 (io), f6 (io), f7 (io), f8 (io), f9 (io), f10 (io), f11 (io)

## Connector 68 Female
designator J?
Connector 68 Female
pins: 1 (io), 2 (io), 3 (io), 4 (io), 5 (io), 6 (io), 7 (io), 8 (io), 9 (io), 10 (io), 11 (io), 12 (io), 13 (io), 14 (io), 15 (io), 16 (io), 17 (io), 18 (io), 19 (io), 20 (io), 21 (io), 22 (io), 23 (io), 24 (io), 25 (io), 26 (io), 27 (io), 28 (io), 29 (io), 30 (io), 31 (io), 32 (io), 33 (io), 34 (io), 35 (io), 36 (io), 37 (io), 38 (io), 39 (io), 40 (io), 41 (io), 42 (io), 43 (io), 44 (io), 45 (io), 46 (io), 47 (io), 48 (io), 49 (io), 50 (io), 51 (io), 52 (io), 53 (io), 54 (io), 55 (io), 56 (io), 57 (io), 58 (io), 59 (io), 60 (io), 61 (io), 62 (io), 63 (io), 64 (io), 65 (io), 66 (io), 67 (io), 68 (io)
1 alternate drawing of the same symbol

## Connector 68 Male
designator J?
Connector 68 Male
pins: 1 (io), 2 (io), 3 (io), 4 (io), 5 (io), 6 (io), 7 (io), 8 (io), 9 (io), 10 (io), 11 (io), 12 (io), 13 (io), 14 (io), 15 (io), 16 (io), 17 (io), 18 (io), 19 (io), 20 (io), 21 (io), 22 (io), 23 (io), 24 (io), 25 (io), 26 (io), 27 (io), 28 (io), 29 (io), 30 (io), 31 (io), 32 (io), 33 (io), 34 (io), 35 (io), 36 (io), 37 (io), 38 (io), 39 (io), 40 (io), 41 (io), 42 (io), 43 (io), 44 (io), 45 (io), 46 (io), 47 (io), 48 (io), 49 (io), 50 (io), 51 (io), 52 (io), 53 (io), 54 (io), 55 (io), 56 (io), 57 (io), 58 (io), 59 (io), 60 (io), 61 (io), 62 (io), 63 (io), 64 (io), 65 (io), 66 (io), 67 (io), 68 (io)
1 alternate drawing of the same symbol

## Connector 70 Female
designator J?
Connector 70 Female
pins: 1 (io), 2 (io), 3 (io), 4 (io), 5 (io), 6 (io), 7 (io), 8 (io), 9 (io), 10 (io), 11 (io), 12 (io), 13 (io), 14 (io), 15 (io), 16 (io), 17 (io), 18 (io), 19 (io), 20 (io), 21 (io), 22 (io), 23 (io), 24 (io), 25 (io), 26 (io), 27 (io), 28 (io), 29 (io), 30 (io), 31 (io), 32 (io), 33 (io), 34 (io), 35 (io), 36 (io), 37 (io), 38 (io), 39 (io), 40 (io), 41 (io), 42 (io), 43 (io), 44 (io), 45 (io), 46 (io), 47 (io), 48 (io), 49 (io), 50 (io), 51 (io), 52 (io), 53 (io), 54 (io), 55 (io), 56 (io), 57 (io), 58 (io), 59 (io), 60 (io), 61 (io), 62 (io), 63 (io), 64 (io), 65 (io), 66 (io), 67 (io), 68 (io), 69 (io), 70 (io)
1 alternate drawing of the same symbol

## Connector 70 Male
designator J?
Connector 70 Male
pins: 1 (io), 2 (io), 3 (io), 4 (io), 5 (io), 6 (io), 7 (io), 8 (io), 9 (io), 10 (io), 11 (io), 12 (io), 13 (io), 14 (io), 15 (io), 16 (io), 17 (io), 18 (io), 19 (io), 20 (io), 21 (io), 22 (io), 23 (io), 24 (io), 25 (io), 26 (io), 27 (io), 28 (io), 29 (io), 30 (io), 31 (io), 32 (io), 33 (io), 34 (io), 35 (io), 36 (io), 37 (io), 38 (io), 39 (io), 40 (io), 41 (io), 42 (io), 43 (io), 44 (io), 45 (io), 46 (io), 47 (io), 48 (io), 49 (io), 50 (io), 51 (io), 52 (io), 53 (io), 54 (io), 55 (io), 56 (io), 57 (io), 58 (io), 59 (io), 60 (io), 61 (io), 62 (io), 63 (io), 64 (io), 65 (io), 66 (io), 67 (io), 68 (io), 69 (io), 70 (io)
1 alternate drawing of the same symbol

## Connector 77zabcde Male (7x11)
designator J?
Connector 77zabcde Male (7x11)
part A pins: z1 (io), z2 (io), z3 (io), z4 (io), z5 (io), z6 (io), z7 (io), z8 (io), z9 (io), z10 (io), z11 (io)
part B pins: a1 (io), a2 (io), a3 (io), a4 (io), a5 (io), a6 (io), a7 (io), a8 (io), a9 (io), a10 (io), a11 (io)
part C pins: b1 (io), b2 (io), b3 (io), b4 (io), b5 (io), b6 (io), b7 (io), b8 (io), b9 (io), b10 (io), b11 (io)
part D pins: c1 (io), c2 (io), c3 (io), c4 (io), c5 (io), c6 (io), c7 (io), c8 (io), c9 (io), c10 (io), c11 (io)
part E pins: d1 (io), d2 (io), d3 (io), d4 (io), d5 (io), d6 (io), d7 (io), d8 (io), d9 (io), d10 (io), d11 (io)
part F pins: e1 (io), e2 (io), e3 (io), e4 (io), e5 (io), e6 (io), e7 (io), e8 (io), e9 (io), e10 (io), e11 (io)
part G pins: f1 (io), f2 (io), f3 (io), f4 (io), f5 (io), f6 (io), f7 (io), f8 (io), f9 (io), f10 (io), f11 (io)

## Connector 80 Female
designator J?
Connector 80 Female
pins: 1 (io), 2 (io), 3 (io), 4 (io), 5 (io), 6 (io), 7 (io), 8 (io), 9 (io), 10 (io), 11 (io), 12 (io), 13 (io), 14 (io), 15 (io), 16 (io), 17 (io), 18 (io), 19 (io), 20 (io), 21 (io), 22 (io), 23 (io), 24 (io), 25 (io), 26 (io), 27 (io), 28 (io), 29 (io), 30 (io), 31 (io), 32 (io), 33 (io), 34 (io), 35 (io), 36 (io), 37 (io), 38 (io), 39 (io), 40 (io), 41 (io), 42 (io), 43 (io), 44 (io), 45 (io), 46 (io), 47 (io), 48 (io), 49 (io), 50 (io), 51 (io), 52 (io), 53 (io), 54 (io), 55 (io), 56 (io), 57 (io), 58 (io), 59 (io), 60 (io), 61 (io), 62 (io), 63 (io), 64 (io), 65 (io), 66 (io), 67 (io), 68 (io), 69 (io), 70 (io), 71 (io), 72 (io), 73 (io), 74 (io), 75 (io), 76 (io), 77 (io), 78 (io), 79 (io), 80 (io)
1 alternate drawing of the same symbol

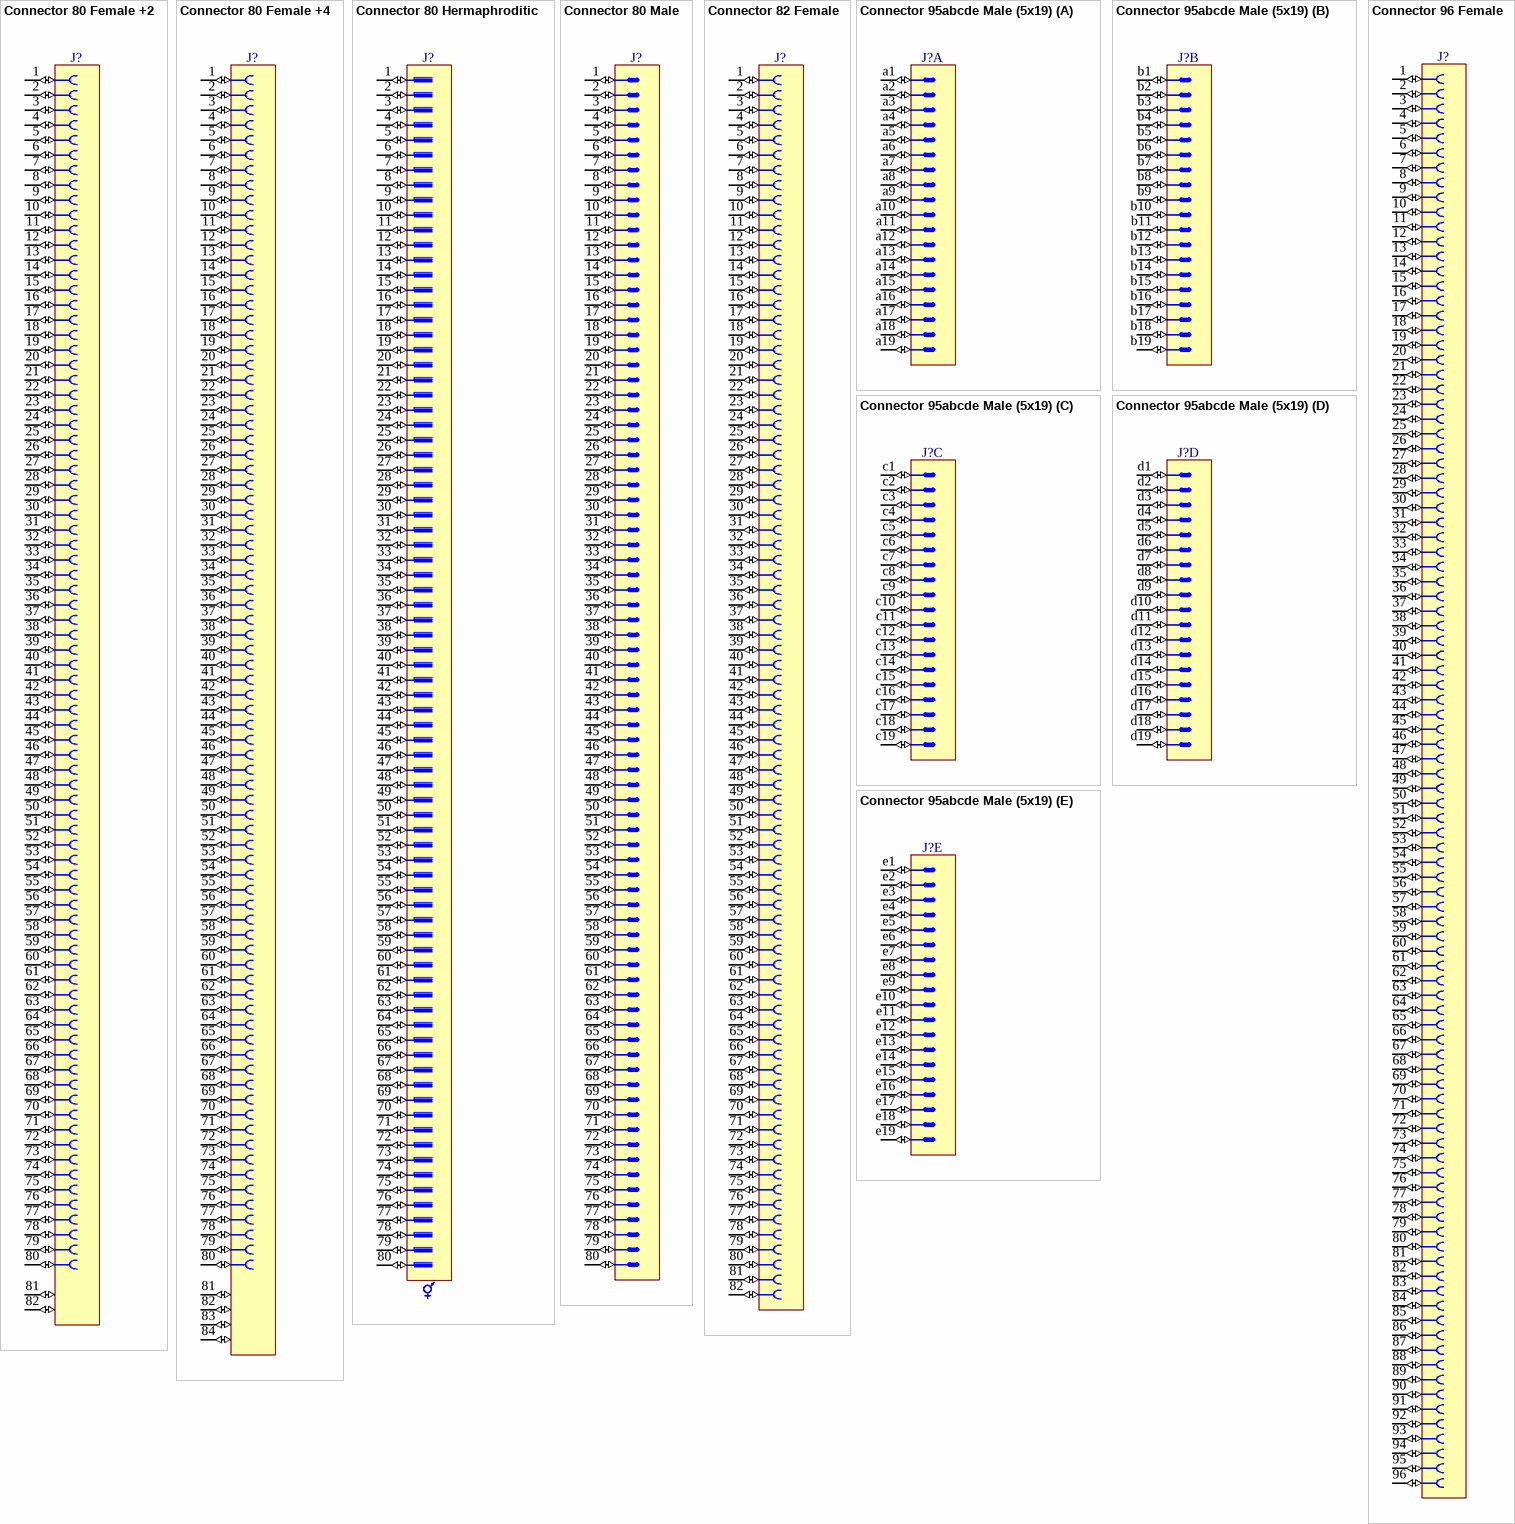
[diagram p14: symbols Connector 80 Female +2 to Connector 96 Female]

## Connector 80 Female +2
designator J?
Connector 80 Female +2
pins: 1 (io), 2 (io), 3 (io), 4 (io), 5 (io), 6 (io), 7 (io), 8 (io), 9 (io), 10 (io), 11 (io), 12 (io), 13 (io), 14 (io), 15 (io), 16 (io), 17 (io), 18 (io), 19 (io), 20 (io), 21 (io), 22 (io), 23 (io), 24 (io), 25 (io), 26 (io), 27 (io), 28 (io), 29 (io), 30 (io), 31 (io), 32 (io), 33 (io), 34 (io), 35 (io), 36 (io), 37 (io), 38 (io), 39 (io), 40 (io), 41 (io), 42 (io), 43 (io), 44 (io), 45 (io), 46 (io), 47 (io), 48 (io), 49 (io), 50 (io), 51 (io), 52 (io), 53 (io), 54 (io), 55 (io), 56 (io), 57 (io), 58 (io), 59 (io), 60 (io), 61 (io), 62 (io), 63 (io), 64 (io), 65 (io), 66 (io), 67 (io), 68 (io), 69 (io), 70 (io), 71 (io), 72 (io), 73 (io), 74 (io), 75 (io), 76 (io), 77 (io), 78 (io), 79 (io), 80 (io), 81 (io), 82 (io)
1 alternate drawing of the same symbol

## Connector 80 Female +4
designator J?
Connector 80 Female +4
pins: 1 (io), 2 (io), 3 (io), 4 (io), 5 (io), 6 (io), 7 (io), 8 (io), 9 (io), 10 (io), 11 (io), 12 (io), 13 (io), 14 (io), 15 (io), 16 (io), 17 (io), 18 (io), 19 (io), 20 (io), 21 (io), 22 (io), 23 (io), 24 (io), 25 (io), 26 (io), 27 (io), 28 (io), 29 (io), 30 (io), 31 (io), 32 (io), 33 (io), 34 (io), 35 (io), 36 (io), 37 (io), 38 (io), 39 (io), 40 (io), 41 (io), 42 (io), 43 (io), 44 (io), 45 (io), 46 (io), 47 (io), 48 (io), 49 (io), 50 (io), 51 (io), 52 (io), 53 (io), 54 (io), 55 (io), 56 (io), 57 (io), 58 (io), 59 (io), 60 (io), 61 (io), 62 (io), 63 (io), 64 (io), 65 (io), 66 (io), 67 (io), 68 (io), 69 (io), 70 (io), 71 (io), 72 (io), 73 (io), 74 (io), 75 (io), 76 (io), 77 (io), 78 (io), 79 (io), 80 (io), 81 (io), 82 (io), 83 (io), 84 (io)
1 alternate drawing of the same symbol

## Connector 80 Hermaphroditic
designator J?
Connector 80 Hermaphroditic
pins: 1 (io), 2 (io), 3 (io), 4 (io), 5 (io), 6 (io), 7 (io), 8 (io), 9 (io), 10 (io), 11 (io), 12 (io), 13 (io), 14 (io), 15 (io), 16 (io), 17 (io), 18 (io), 19 (io), 20 (io), 21 (io), 22 (io), 23 (io), 24 (io), 25 (io), 26 (io), 27 (io), 28 (io), 29 (io), 30 (io), 31 (io), 32 (io), 33 (io), 34 (io), 35 (io), 36 (io), 37 (io), 38 (io), 39 (io), 40 (io), 41 (io), 42 (io), 43 (io), 44 (io), 45 (io), 46 (io), 47 (io), 48 (io), 49 (io), 50 (io), 51 (io), 52 (io), 53 (io), 54 (io), 55 (io), 56 (io), 57 (io), 58 (io), 59 (io), 60 (io), 61 (io), 62 (io), 63 (io), 64 (io), 65 (io), 66 (io), 67 (io), 68 (io), 69 (io), 70 (io), 71 (io), 72 (io), 73 (io), 74 (io), 75 (io), 76 (io), 77 (io), 78 (io), 79 (io), 80 (io)
1 alternate drawing of the same symbol

## Connector 80 Male
designator J?
Connector 80 Male
pins: 1 (io), 2 (io), 3 (io), 4 (io), 5 (io), 6 (io), 7 (io), 8 (io), 9 (io), 10 (io), 11 (io), 12 (io), 13 (io), 14 (io), 15 (io), 16 (io), 17 (io), 18 (io), 19 (io), 20 (io), 21 (io), 22 (io), 23 (io), 24 (io), 25 (io), 26 (io), 27 (io), 28 (io), 29 (io), 30 (io), 31 (io), 32 (io), 33 (io), 34 (io), 35 (io), 36 (io), 37 (io), 38 (io), 39 (io), 40 (io), 41 (io), 42 (io), 43 (io), 44 (io), 45 (io), 46 (io), 47 (io), 48 (io), 49 (io), 50 (io), 51 (io), 52 (io), 53 (io), 54 (io), 55 (io), 56 (io), 57 (io), 58 (io), 59 (io), 60 (io), 61 (io), 62 (io), 63 (io), 64 (io), 65 (io), 66 (io), 67 (io), 68 (io), 69 (io), 70 (io), 71 (io), 72 (io), 73 (io), 74 (io), 75 (io), 76 (io), 77 (io), 78 (io), 79 (io), 80 (io)
1 alternate drawing of the same symbol

## Connector 82 Female
designator J?
Connector 82 Female
pins: 1 (io), 2 (io), 3 (io), 4 (io), 5 (io), 6 (io), 7 (io), 8 (io), 9 (io), 10 (io), 11 (io), 12 (io), 13 (io), 14 (io), 15 (io), 16 (io), 17 (io), 18 (io), 19 (io), 20 (io), 21 (io), 22 (io), 23 (io), 24 (io), 25 (io), 26 (io), 27 (io), 28 (io), 29 (io), 30 (io), 31 (io), 32 (io), 33 (io), 34 (io), 35 (io), 36 (io), 37 (io), 38 (io), 39 (io), 40 (io), 41 (io), 42 (io), 43 (io), 44 (io), 45 (io), 46 (io), 47 (io), 48 (io), 49 (io), 50 (io), 51 (io), 52 (io), 53 (io), 54 (io), 55 (io), 56 (io), 57 (io), 58 (io), 59 (io), 60 (io), 61 (io), 62 (io), 63 (io), 64 (io), 65 (io), 66 (io), 67 (io), 68 (io), 69 (io), 70 (io), 71 (io), 72 (io), 73 (io), 74 (io), 75 (io), 76 (io), 77 (io), 78 (io), 79 (io), 80 (io), 81 (io), 82 (io)
1 alternate drawing of the same symbol

## Connector 95abcde Male (5x19)
designator J?
Connector 95abcde Male (5x19)
part A pins: a1 (io), a2 (io), a3 (io), a4 (io), a5 (io), a6 (io), a7 (io), a8 (io), a9 (io), a10 (io), a11 (io), a12 (io), a13 (io), a14 (io), a15 (io), a16 (io), a17 (io), a18 (io), a19 (io)
part B pins: b1 (io), b2 (io), b3 (io), b4 (io), b5 (io), b6 (io), b7 (io), b8 (io), b9 (io), b10 (io), b11 (io), b12 (io), b13 (io), b14 (io), b15 (io), b16 (io), b17 (io), b18 (io), b19 (io)
part C pins: c1 (io), c2 (io), c3 (io), c4 (io), c5 (io), c6 (io), c7 (io), c8 (io), c9 (io), c10 (io), c11 (io), c12 (io), c13 (io), c14 (io), c15 (io), c16 (io), c17 (io), c18 (io), c19 (io)
part D pins: d1 (io), d2 (io), d3 (io), d4 (io), d5 (io), d6 (io), d7 (io), d8 (io), d9 (io), d10 (io), d11 (io), d12 (io), d13 (io), d14 (io), d15 (io), d16 (io), d17 (io), d18 (io), d19 (io)
part E pins: e1 (io), e2 (io), e3 (io), e4 (io), e5 (io), e6 (io), e7 (io), e8 (io), e9 (io), e10 (io), e11 (io), e12 (io), e13 (io), e14 (io), e15 (io), e16 (io), e17 (io), e18 (io), e19 (io)

## Connector 96 Female
designator J?
Connector 96 Female
pins: 1 (io), 2 (io), 3 (io), 4 (io), 5 (io), 6 (io), 7 (io), 8 (io), 9 (io), 10 (io), 11 (io), 12 (io), 13 (io), 14 (io), 15 (io), 16 (io), 17 (io), 18 (io), 19 (io), 20 (io), 21 (io), 22 (io), 23 (io), 24 (io), 25 (io), 26 (io), 27 (io), 28 (io), 29 (io), 30 (io), 31 (io), 32 (io), 33 (io), 34 (io), 35 (io), 36 (io), 37 (io), 38 (io), 39 (io), 40 (io), 41 (io), 42 (io), 43 (io), 44 (io), 45 (io), 46 (io), 47 (io), 48 (io), 49 (io), 50 (io), 51 (io), 52 (io), 53 (io), 54 (io), 55 (io), 56 (io), 57 (io), 58 (io), 59 (io), 60 (io), 61 (io), 62 (io), 63 (io), 64 (io), 65 (io), 66 (io), 67 (io), 68 (io), 69 (io), 70 (io), 71 (io), 72 (io), 73 (io), 74 (io), 75 (io), 76 (io), 77 (io), 78 (io), 79 (io), 80 (io), 81 (io), 82 (io), 83 (io), 84 (io), 85 (io), 86 (io), 87 (io), 88 (io), 89 (io), 90 (io), 91 (io), 92 (io), 93 (io), 94 (io), 95 (io), 96 (io)

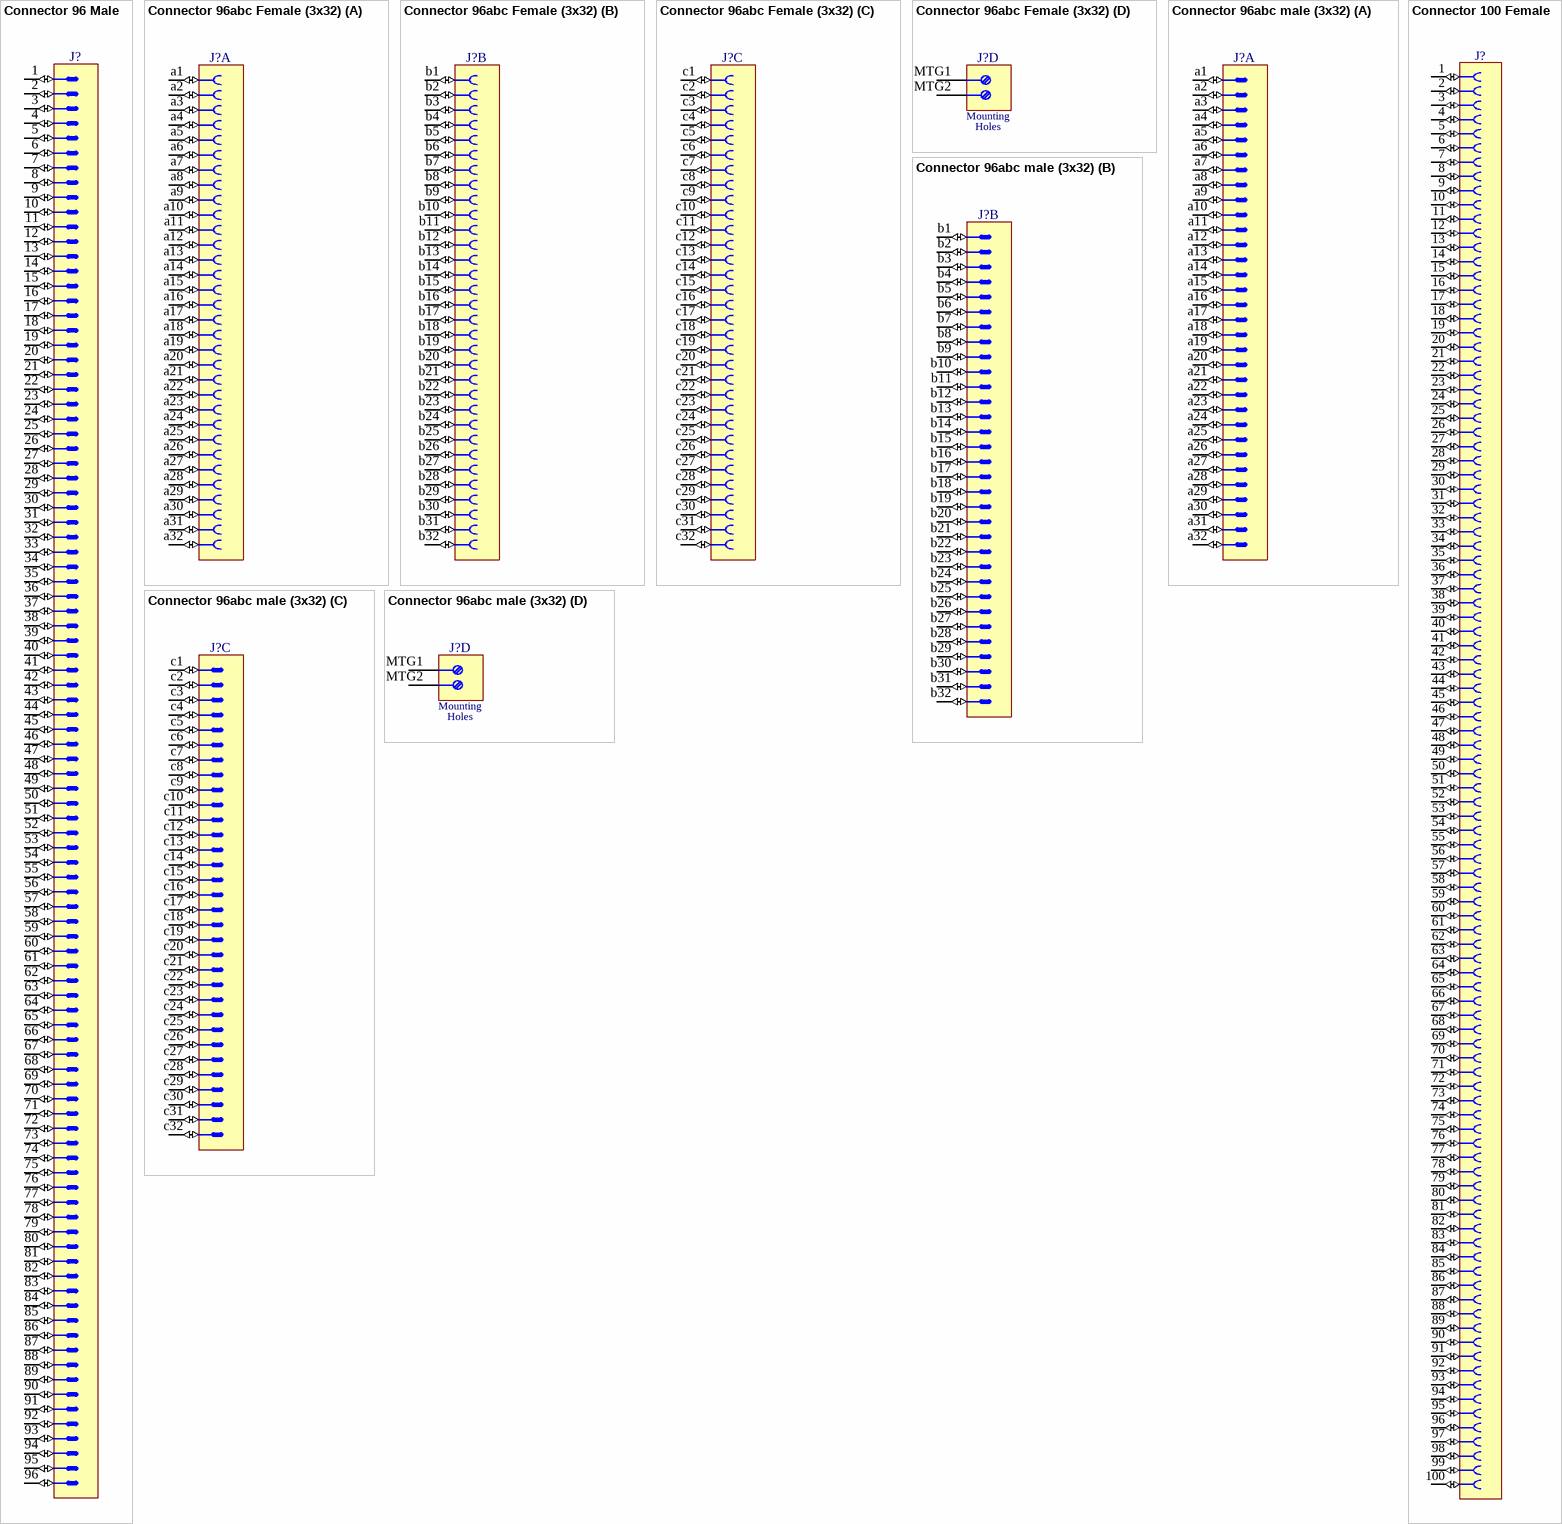
[diagram p15: symbols Connector 96 Male to Connector 100 Female]

## Connector 96 Male
designator J?
Connector 96 Male
pins: 1 (io), 2 (io), 3 (io), 4 (io), 5 (io), 6 (io), 7 (io), 8 (io), 9 (io), 10 (io), 11 (io), 12 (io), 13 (io), 14 (io), 15 (io), 16 (io), 17 (io), 18 (io), 19 (io), 20 (io), 21 (io), 22 (io), 23 (io), 24 (io), 25 (io), 26 (io), 27 (io), 28 (io), 29 (io), 30 (io), 31 (io), 32 (io), 33 (io), 34 (io), 35 (io), 36 (io), 37 (io), 38 (io), 39 (io), 40 (io), 41 (io), 42 (io), 43 (io), 44 (io), 45 (io), 46 (io), 47 (io), 48 (io), 49 (io), 50 (io), 51 (io), 52 (io), 53 (io), 54 (io), 55 (io), 56 (io), 57 (io), 58 (io), 59 (io), 60 (io), 61 (io), 62 (io), 63 (io), 64 (io), 65 (io), 66 (io), 67 (io), 68 (io), 69 (io), 70 (io), 71 (io), 72 (io), 73 (io), 74 (io), 75 (io), 76 (io), 77 (io), 78 (io), 79 (io), 80 (io), 81 (io), 82 (io), 83 (io), 84 (io), 85 (io), 86 (io), 87 (io), 88 (io), 89 (io), 90 (io), 91 (io), 92 (io), 93 (io), 94 (io), 95 (io), 96 (io)

## Connector 96abc Female (3x32)
designator J?
Connector 96abc Female (3x32)
part A pins: a1 (io), a2 (io), a3 (io), a4 (io), a5 (io), a6 (io), a7 (io), a8 (io), a9 (io), a10 (io), a11 (io), a12 (io), a13 (io), a14 (io), a15 (io), a16 (io), a17 (io), a18 (io), a19 (io), a20 (io), a21 (io), a22 (io), a23 (io), a24 (io), a25 (io), a26 (io), a27 (io), a28 (io), a29 (io), a30 (io), a31 (io), a32 (io)
part B pins: b1 (io), b2 (io), b3 (io), b4 (io), b5 (io), b6 (io), b7 (io), b8 (io), b9 (io), b10 (io), b11 (io), b12 (io), b13 (io), b14 (io), b15 (io), b16 (io), b17 (io), b18 (io), b19 (io), b20 (io), b21 (io), b22 (io), b23 (io), b24 (io), b25 (io), b26 (io), b27 (io), b28 (io), b29 (io), b30 (io), b31 (io), b32 (io)
part C pins: c1 (io), c2 (io), c3 (io), c4 (io), c5 (io), c6 (io), c7 (io), c8 (io), c9 (io), c10 (io), c11 (io), c12 (io), c13 (io), c14 (io), c15 (io), c16 (io), c17 (io), c18 (io), c19 (io), c20 (io), c21 (io), c22 (io), c23 (io), c24 (io), c25 (io), c26 (io), c27 (io), c28 (io), c29 (io), c30 (io), c31 (io), c32 (io)
part D pins: MTG1 "Mounting Fixture", MTG2 "Mounting Fixture"
part D text: Mounting; Holes

## Connector 96abc male (3x32)
designator J?
Connector 96abc male (3x32)
part A pins: a1 (io), a2 (io), a3 (io), a4 (io), a5 (io), a6 (io), a7 (io), a8 (io), a9 (io), a10 (io), a11 (io), a12 (io), a13 (io), a14 (io), a15 (io), a16 (io), a17 (io), a18 (io), a19 (io), a20 (io), a21 (io), a22 (io), a23 (io), a24 (io), a25 (io), a26 (io), a27 (io), a28 (io), a29 (io), a30 (io), a31 (io), a32 (io)
part B pins: b1 (io), b2 (io), b3 (io), b4 (io), b5 (io), b6 (io), b7 (io), b8 (io), b9 (io), b10 (io), b11 (io), b12 (io), b13 (io), b14 (io), b15 (io), b16 (io), b17 (io), b18 (io), b19 (io), b20 (io), b21 (io), b22 (io), b23 (io), b24 (io), b25 (io), b26 (io), b27 (io), b28 (io), b29 (io), b30 (io), b31 (io), b32 (io)
part C pins: c1 (io), c2 (io), c3 (io), c4 (io), c5 (io), c6 (io), c7 (io), c8 (io), c9 (io), c10 (io), c11 (io), c12 (io), c13 (io), c14 (io), c15 (io), c16 (io), c17 (io), c18 (io), c19 (io), c20 (io), c21 (io), c22 (io), c23 (io), c24 (io), c25 (io), c26 (io), c27 (io), c28 (io), c29 (io), c30 (io), c31 (io), c32 (io)
part D pins: MTG1 "Mounting Fixture", MTG2 "Mounting Fixture"
part D text: Mounting; Holes

## Connector 100 Female
designator J?
Connector 100 Female
pins: 1 (io), 2 (io), 3 (io), 4 (io), 5 (io), 6 (io), 7 (io), 8 (io), 9 (io), 10 (io), 11 (io), 12 (io), 13 (io), 14 (io), 15 (io), 16 (io), 17 (io), 18 (io), 19 (io), 20 (io), 21 (io), 22 (io), 23 (io), 24 (io), 25 (io), 26 (io), 27 (io), 28 (io), 29 (io), 30 (io), 31 (io), 32 (io), 33 (io), 34 (io), 35 (io), 36 (io), 37 (io), 38 (io), 39 (io), 40 (io), 41 (io), 42 (io), 43 (io), 44 (io), 45 (io), 46 (io), 47 (io), 48 (io), 49 (io), 50 (io), 51 (io), 52 (io), 53 (io), 54 (io), 55 (io), 56 (io), 57 (io), 58 (io), 59 (io), 60 (io), 61 (io), 62 (io), 63 (io), 64 (io), 65 (io), 66 (io), 67 (io), 68 (io), 69 (io), 70 (io), 71 (io), 72 (io), 73 (io), 74 (io), 75 (io), 76 (io), 77 (io), 78 (io), 79 (io), 80 (io), 81 (io), 82 (io), 83 (io), 84 (io), 85 (io), 86 (io), 87 (io), 88 (io), 89 (io), 90 (io), 91 (io), 92 (io), 93 (io), 94 (io), 95 (io), 96 (io), 97 (io), 98 (io), 99 (io), 100 (io)
1 alternate drawing of the same symbol

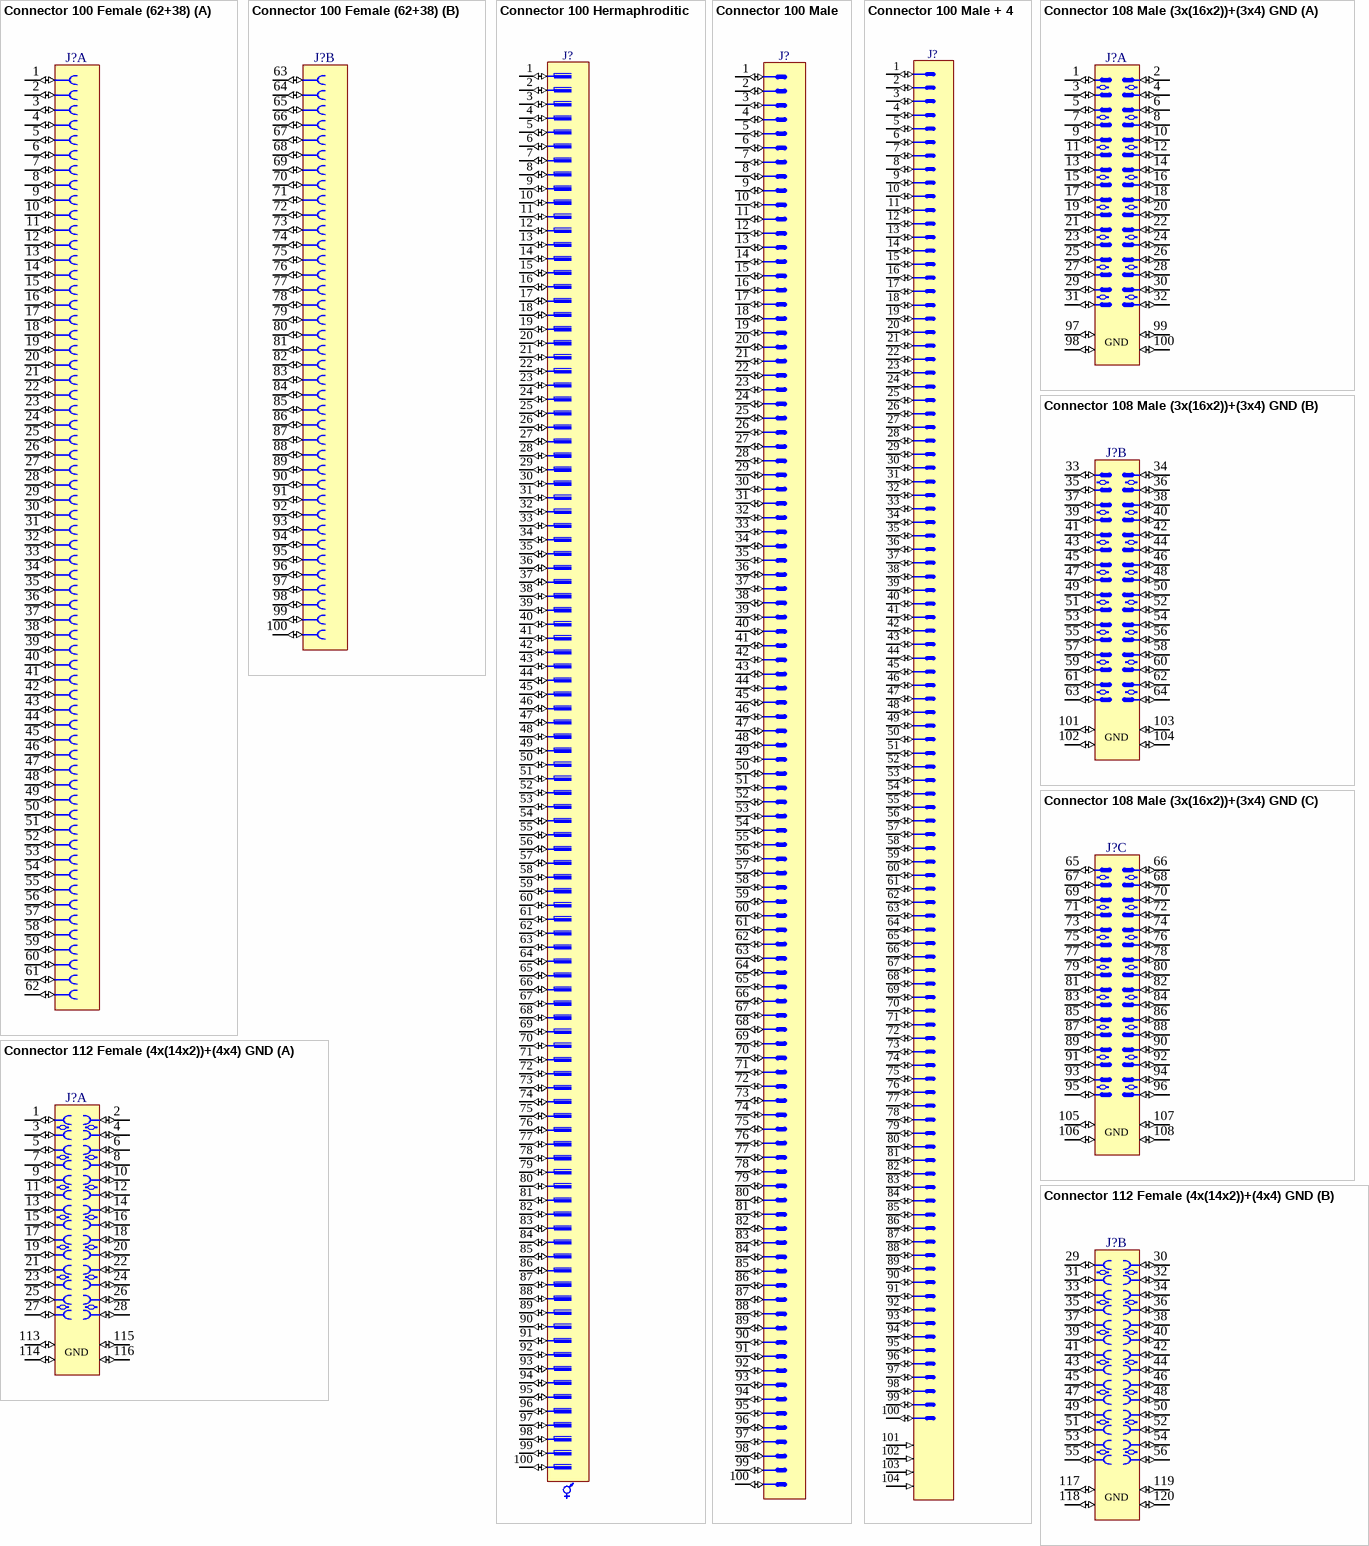
[diagram p16: symbols Connector 100 Female (62+38) to Connector 112 Female (4x(14x2))+(4x4) GND]

## Connector 100 Female (62+38)
designator J?
Connector 100 Female (62+38)
part A pins: 1 (io), 2 (io), 3 (io), 4 (io), 5 (io), 6 (io), 7 (io), 8 (io), 9 (io), 10 (io), 11 (io), 12 (io), 13 (io), 14 (io), 15 (io), 16 (io), 17 (io), 18 (io), 19 (io), 20 (io), 21 (io), 22 (io), 23 (io), 24 (io), 25 (io), 26 (io), 27 (io), 28 (io), 29 (io), 30 (io), 31 (io), 32 (io), 33 (io), 34 (io), 35 (io), 36 (io), 37 (io), 38 (io), 39 (io), 40 (io), 41 (io), 42 (io), 43 (io), 44 (io), 45 (io), 46 (io), 47 (io), 48 (io), 49 (io), 50 (io), 51 (io), 52 (io), 53 (io), 54 (io), 55 (io), 56 (io), 57 (io), 58 (io), 59 (io), 60 (io), 61 (io), 62 (io)
part B pins: 63 (io), 64 (io), 65 (io), 66 (io), 67 (io), 68 (io), 69 (io), 70 (io), 71 (io), 72 (io), 73 (io), 74 (io), 75 (io), 76 (io), 77 (io), 78 (io), 79 (io), 80 (io), 81 (io), 82 (io), 83 (io), 84 (io), 85 (io), 86 (io), 87 (io), 88 (io), 89 (io), 90 (io), 91 (io), 92 (io), 93 (io), 94 (io), 95 (io), 96 (io), 97 (io), 98 (io), 99 (io), 100 (io)

## Connector 100 Hermaphroditic
designator J?
Connector 100 Hermaphroditic
pins: 1 (io), 2 (io), 3 (io), 4 (io), 5 (io), 6 (io), 7 (io), 8 (io), 9 (io), 10 (io), 11 (io), 12 (io), 13 (io), 14 (io), 15 (io), 16 (io), 17 (io), 18 (io), 19 (io), 20 (io), 21 (io), 22 (io), 23 (io), 24 (io), 25 (io), 26 (io), 27 (io), 28 (io), 29 (io), 30 (io), 31 (io), 32 (io), 33 (io), 34 (io), 35 (io), 36 (io), 37 (io), 38 (io), 39 (io), 40 (io), 41 (io), 42 (io), 43 (io), 44 (io), 45 (io), 46 (io), 47 (io), 48 (io), 49 (io), 50 (io), 51 (io), 52 (io), 53 (io), 54 (io), 55 (io), 56 (io), 57 (io), 58 (io), 59 (io), 60 (io), 61 (io), 62 (io), 63 (io), 64 (io), 65 (io), 66 (io), 67 (io), 68 (io), 69 (io), 70 (io), 71 (io), 72 (io), 73 (io), 74 (io), 75 (io), 76 (io), 77 (io), 78 (io), 79 (io), 80 (io), 81 (io), 82 (io), 83 (io), 84 (io), 85 (io), 86 (io), 87 (io), 88 (io), 89 (io), 90 (io), 91 (io), 92 (io), 93 (io), 94 (io), 95 (io), 96 (io), 97 (io), 98 (io), 99 (io), 100 (io)
1 alternate drawing of the same symbol

## Connector 100 Male
designator J?
Connector 100 Male
pins: 1 (io), 2 (io), 3 (io), 4 (io), 5 (io), 6 (io), 7 (io), 8 (io), 9 (io), 10 (io), 11 (io), 12 (io), 13 (io), 14 (io), 15 (io), 16 (io), 17 (io), 18 (io), 19 (io), 20 (io), 21 (io), 22 (io), 23 (io), 24 (io), 25 (io), 26 (io), 27 (io), 28 (io), 29 (io), 30 (io), 31 (io), 32 (io), 33 (io), 34 (io), 35 (io), 36 (io), 37 (io), 38 (io), 39 (io), 40 (io), 41 (io), 42 (io), 43 (io), 44 (io), 45 (io), 46 (io), 47 (io), 48 (io), 49 (io), 50 (io), 51 (io), 52 (io), 53 (io), 54 (io), 55 (io), 56 (io), 57 (io), 58 (io), 59 (io), 60 (io), 61 (io), 62 (io), 63 (io), 64 (io), 65 (io), 66 (io), 67 (io), 68 (io), 69 (io), 70 (io), 71 (io), 72 (io), 73 (io), 74 (io), 75 (io), 76 (io), 77 (io), 78 (io), 79 (io), 80 (io), 81 (io), 82 (io), 83 (io), 84 (io), 85 (io), 86 (io), 87 (io), 88 (io), 89 (io), 90 (io), 91 (io), 92 (io), 93 (io), 94 (io), 95 (io), 96 (io), 97 (io), 98 (io), 99 (io), 100 (io)
1 alternate drawing of the same symbol

## Connector 100 Male + 4
designator J?
Connector 100 Male + 4
pins: 1 (io), 2 (io), 3 (io), 4 (io), 5 (io), 6 (io), 7 (io), 8 (io), 9 (io), 10 (io), 11 (io), 12 (io), 13 (io), 14 (io), 15 (io), 16 (io), 17 (io), 18 (io), 19 (io), 20 (io), 21 (io), 22 (io), 23 (io), 24 (io), 25 (io), 26 (io), 27 (io), 28 (io), 29 (io), 30 (io), 31 (io), 32 (io), 33 (io), 34 (io), 35 (io), 36 (io), 37 (io), 38 (io), 39 (io), 40 (io), 41 (io), 42 (io), 43 (io), 44 (io), 45 (io), 46 (io), 47 (io), 48 (io), 49 (io), 50 (io), 51 (io), 52 (io), 53 (io), 54 (io), 55 (io), 56 (io), 57 (io), 58 (io), 59 (io), 60 (io), 61 (io), 62 (io), 63 (io), 64 (io), 65 (io), 66 (io), 67 (io), 68 (io), 69 (io), 70 (io), 71 (io), 72 (io), 73 (io), 74 (io), 75 (io), 76 (io), 77 (io), 78 (io), 79 (io), 80 (io), 81 (io), 82 (io), 83 (io), 84 (io), 85 (io), 86 (io), 87 (io), 88 (io), 89 (io), 90 (io), 91 (io), 92 (io), 93 (io), 94 (io), 95 (io), 96 (io), 97 (io), 98 (io), 99 (io), 100 (io), 101 (in), 102 (in), 103 (in), 104 (in)
1 alternate drawing of the same symbol

## Connector 108 Male (3x(16x2))+(3x4) GND
designator J?
Connector 108 Male (3x(16x2))+(3x4) GND
part A pins: 1 (io), 2 (io), 3 (io), 4 (io), 5 (io), 6 (io), 7 (io), 8 (io), 9 (io), 10 (io), 11 (io), 12 (io), 13 (io), 14 (io), 15 (io), 16 (io), 17 (io), 18 (io), 19 (io), 20 (io), 21 (io), 22 (io), 23 (io), 24 (io), 25 (io), 26 (io), 27 (io), 28 (io), 29 (io), 30 (io), 31 (io), 32 (io), 97 (io), 98 (io), 99 (io), 100 (io)
part B pins: 33 (io), 34 (io), 35 (io), 36 (io), 37 (io), 38 (io), 39 (io), 40 (io), 41 (io), 42 (io), 43 (io), 44 (io), 45 (io), 46 (io), 47 (io), 48 (io), 49 (io), 50 (io), 51 (io), 52 (io), 53 (io), 54 (io), 55 (io), 56 (io), 57 (io), 58 (io), 59 (io), 60 (io), 61 (io), 62 (io), 63 (io), 64 (io), 101 (io), 102 (io), 103 (io), 104 (io)
part C pins: 65 (io), 66 (io), 67 (io), 68 (io), 69 (io), 70 (io), 71 (io), 72 (io), 73 (io), 74 (io), 75 (io), 76 (io), 77 (io), 78 (io), 79 (io), 80 (io), 81 (io), 82 (io), 83 (io), 84 (io), 85 (io), 86 (io), 87 (io), 88 (io), 89 (io), 90 (io), 91 (io), 92 (io), 93 (io), 94 (io), 95 (io), 96 (io), 105 (io), 106 (io), 107 (io), 108 (io)
part A text: GND
part B text: GND
part C text: GND

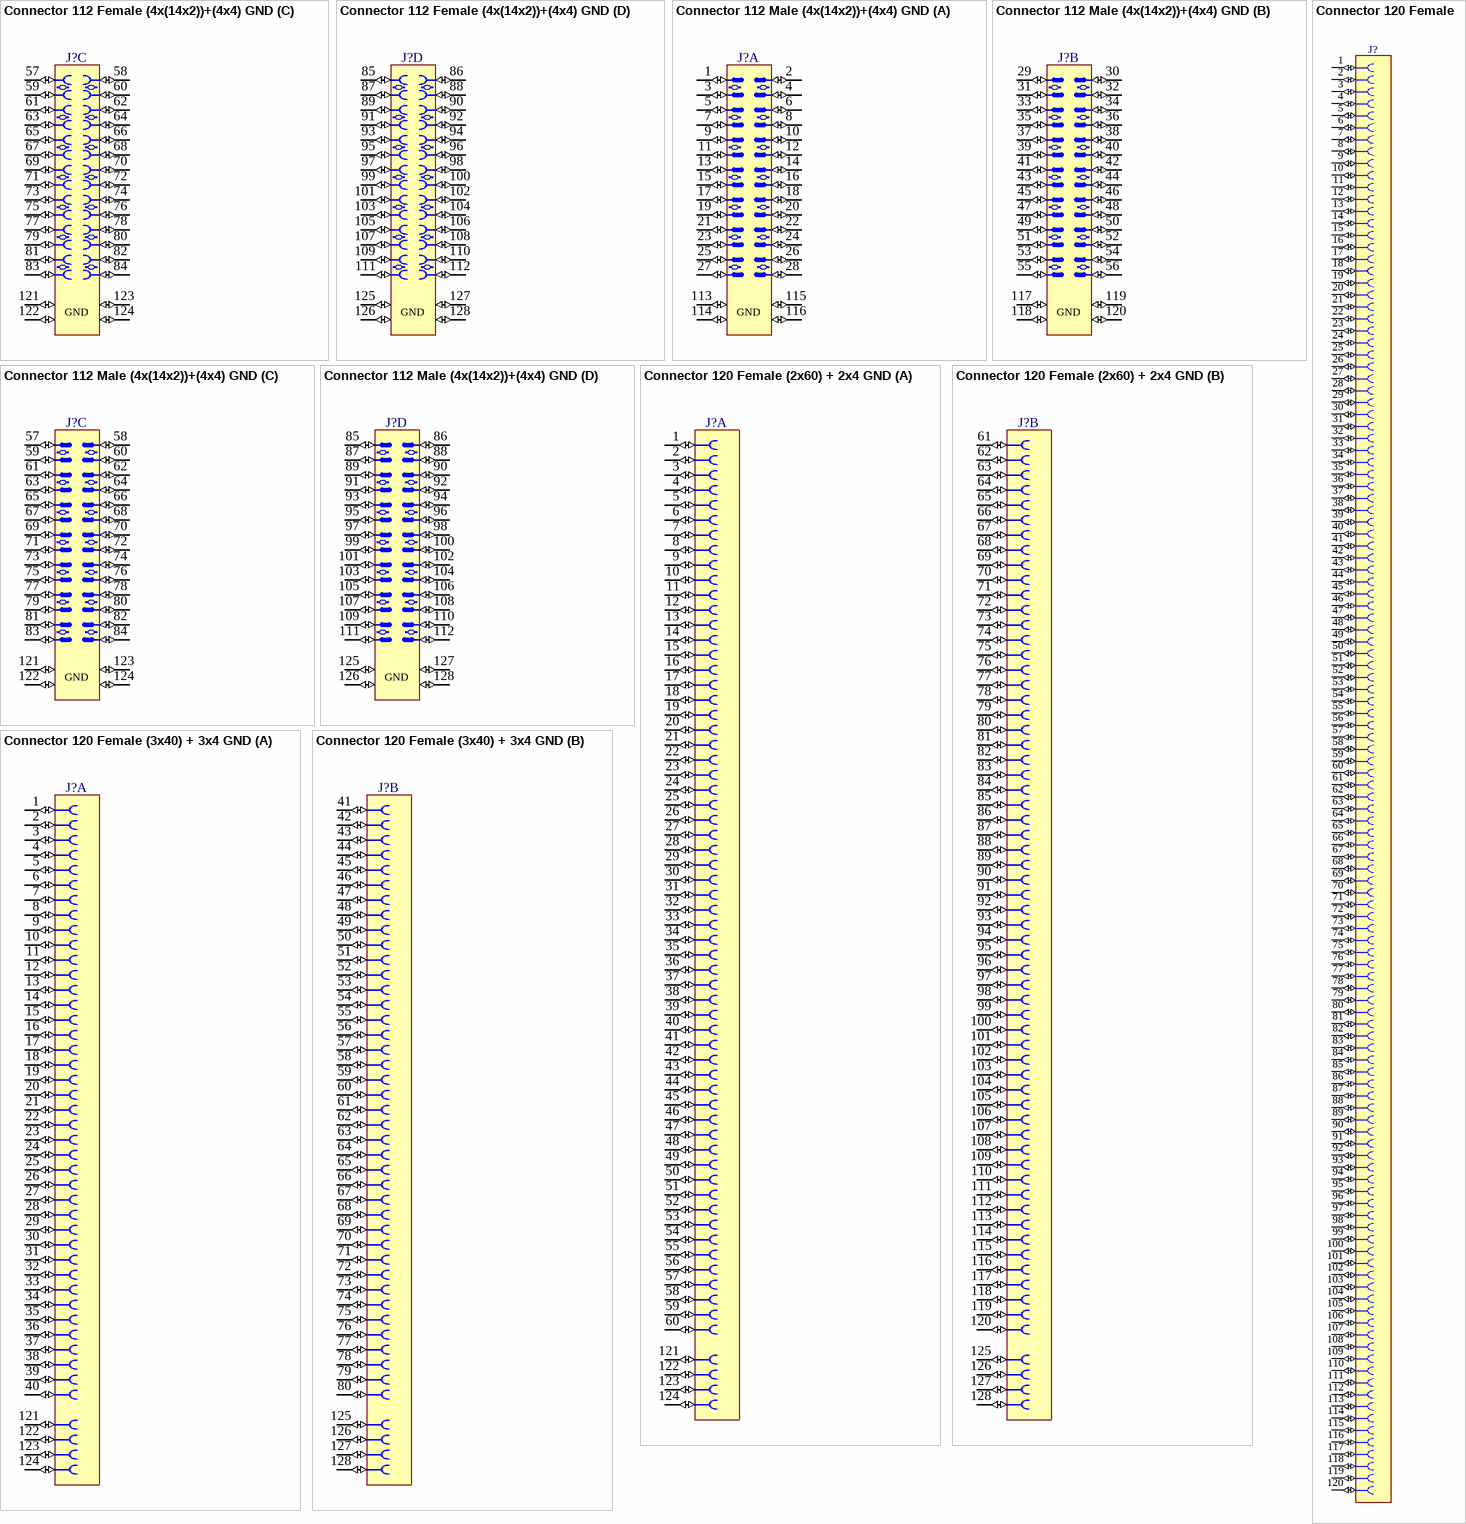
[diagram p17: symbols Connector 112 Female (4x(14x2))+(4x4) GND to Connector 120 Female (3x40) + 3x4 GND]

## Connector 112 Female (4x(14x2))+(4x4) GND
designator J?
Connector 112 Female (4x(14x2))+(4x4) GND
part A pins: 1 (io), 2 (io), 3 (io), 4 (io), 5 (io), 6 (io), 7 (io), 8 (io), 9 (io), 10 (io), 11 (io), 12 (io), 13 (io), 14 (io), 15 (io), 16 (io), 17 (io), 18 (io), 19 (io), 20 (io), 21 (io), 22 (io), 23 (io), 24 (io), 25 (io), 26 (io), 27 (io), 28 (io), 113 (io), 114 (io), 115 (io), 116 (io)
part B pins: 29 (io), 30 (io), 31 (io), 32 (io), 33 (io), 34 (io), 35 (io), 36 (io), 37 (io), 38 (io), 39 (io), 40 (io), 41 (io), 42 (io), 43 (io), 44 (io), 45 (io), 46 (io), 47 (io), 48 (io), 49 (io), 50 (io), 51 (io), 52 (io), 53 (io), 54 (io), 55 (io), 56 (io), 117 (io), 118 (io), 119 (io), 120 (io)
part C pins: 57 (io), 58 (io), 59 (io), 60 (io), 61 (io), 62 (io), 63 (io), 64 (io), 65 (io), 66 (io), 67 (io), 68 (io), 69 (io), 70 (io), 71 (io), 72 (io), 73 (io), 74 (io), 75 (io), 76 (io), 77 (io), 78 (io), 79 (io), 80 (io), 81 (io), 82 (io), 83 (io), 84 (io), 121 (io), 122 (io), 123 (io), 124 (io)
part D pins: 85 (io), 86 (io), 87 (io), 88 (io), 89 (io), 90 (io), 91 (io), 92 (io), 93 (io), 94 (io), 95 (io), 96 (io), 97 (io), 98 (io), 99 (io), 100 (io), 101 (io), 102 (io), 103 (io), 104 (io), 105 (io), 106 (io), 107 (io), 108 (io), 109 (io), 110 (io), 111 (io), 112 (io), 125 (io), 126 (io), 127 (io), 128 (io)
part A text: GND
part B text: GND
part C text: GND
part D text: GND

## Connector 112 Male (4x(14x2))+(4x4) GND
designator J?
Connector 112 Male (4x(14x2))+(4x4) GND
part A pins: 1 (io), 2 (io), 3 (io), 4 (io), 5 (io), 6 (io), 7 (io), 8 (io), 9 (io), 10 (io), 11 (io), 12 (io), 13 (io), 14 (io), 15 (io), 16 (io), 17 (io), 18 (io), 19 (io), 20 (io), 21 (io), 22 (io), 23 (io), 24 (io), 25 (io), 26 (io), 27 (io), 28 (io), 113 (io), 114 (io), 115 (io), 116 (io)
part B pins: 29 (io), 30 (io), 31 (io), 32 (io), 33 (io), 34 (io), 35 (io), 36 (io), 37 (io), 38 (io), 39 (io), 40 (io), 41 (io), 42 (io), 43 (io), 44 (io), 45 (io), 46 (io), 47 (io), 48 (io), 49 (io), 50 (io), 51 (io), 52 (io), 53 (io), 54 (io), 55 (io), 56 (io), 117 (io), 118 (io), 119 (io), 120 (io)
part C pins: 57 (io), 58 (io), 59 (io), 60 (io), 61 (io), 62 (io), 63 (io), 64 (io), 65 (io), 66 (io), 67 (io), 68 (io), 69 (io), 70 (io), 71 (io), 72 (io), 73 (io), 74 (io), 75 (io), 76 (io), 77 (io), 78 (io), 79 (io), 80 (io), 81 (io), 82 (io), 83 (io), 84 (io), 121 (io), 122 (io), 123 (io), 124 (io)
part D pins: 85 (io), 86 (io), 87 (io), 88 (io), 89 (io), 90 (io), 91 (io), 92 (io), 93 (io), 94 (io), 95 (io), 96 (io), 97 (io), 98 (io), 99 (io), 100 (io), 101 (io), 102 (io), 103 (io), 104 (io), 105 (io), 106 (io), 107 (io), 108 (io), 109 (io), 110 (io), 111 (io), 112 (io), 125 (io), 126 (io), 127 (io), 128 (io)
part A text: GND
part B text: GND
part C text: GND
part D text: GND

## Connector 120 Female
designator J?
Connector 120 Female
pins: 1 (io), 2 (io), 3 (io), 4 (io), 5 (io), 6 (io), 7 (io), 8 (io), 9 (io), 10 (io), 11 (io), 12 (io), 13 (io), 14 (io), 15 (io), 16 (io), 17 (io), 18 (io), 19 (io), 20 (io), 21 (io), 22 (io), 23 (io), 24 (io), 25 (io), 26 (io), 27 (io), 28 (io), 29 (io), 30 (io), 31 (io), 32 (io), 33 (io), 34 (io), 35 (io), 36 (io), 37 (io), 38 (io), 39 (io), 40 (io), 41 (io), 42 (io), 43 (io), 44 (io), 45 (io), 46 (io), 47 (io), 48 (io), 49 (io), 50 (io), 51 (io), 52 (io), 53 (io), 54 (io), 55 (io), 56 (io), 57 (io), 58 (io), 59 (io), 60 (io), 61 (io), 62 (io), 63 (io), 64 (io), 65 (io), 66 (io), 67 (io), 68 (io), 69 (io), 70 (io), 71 (io), 72 (io), 73 (io), 74 (io), 75 (io), 76 (io), 77 (io), 78 (io), 79 (io), 80 (io), 81 (io), 82 (io), 83 (io), 84 (io), 85 (io), 86 (io), 87 (io), 88 (io), 89 (io), 90 (io), 91 (io), 92 (io), 93 (io), 94 (io), 95 (io), 96 (io), 97 (io), 98 (io), 99 (io), 100 (io), 101 (io), 102 (io), 103 (io), 104 (io), 105 (io), 106 (io), 107 (io), 108 (io), 109 (io), 110 (io), 111 (io), 112 (io), 113 (io), 114 (io), 115 (io), 116 (io), 117 (io), 118 (io), 119 (io), 120 (io)
1 alternate drawing of the same symbol

## Connector 120 Female (2x60) + 2x4 GND
designator J?
Connector 120 Female (2x60) + 2x4 GND
part A pins: 1 (io), 2 (io), 3 (io), 4 (io), 5 (io), 6 (io), 7 (io), 8 (io), 9 (io), 10 (io), 11 (io), 12 (io), 13 (io), 14 (io), 15 (io), 16 (io), 17 (io), 18 (io), 19 (io), 20 (io), 21 (io), 22 (io), 23 (io), 24 (io), 25 (io), 26 (io), 27 (io), 28 (io), 29 (io), 30 (io), 31 (io), 32 (io), 33 (io), 34 (io), 35 (io), 36 (io), 37 (io), 38 (io), 39 (io), 40 (io), 41 (io), 42 (io), 43 (io), 44 (io), 45 (io), 46 (io), 47 (io), 48 (io), 49 (io), 50 (io), 51 (io), 52 (io), 53 (io), 54 (io), 55 (io), 56 (io), 57 (io), 58 (io), 59 (io), 60 (io), 121 (io), 122 (io), 123 (io), 124 (io)
part B pins: 61 (io), 62 (io), 63 (io), 64 (io), 65 (io), 66 (io), 67 (io), 68 (io), 69 (io), 70 (io), 71 (io), 72 (io), 73 (io), 74 (io), 75 (io), 76 (io), 77 (io), 78 (io), 79 (io), 80 (io), 81 (io), 82 (io), 83 (io), 84 (io), 85 (io), 86 (io), 87 (io), 88 (io), 89 (io), 90 (io), 91 (io), 92 (io), 93 (io), 94 (io), 95 (io), 96 (io), 97 (io), 98 (io), 99 (io), 100 (io), 101 (io), 102 (io), 103 (io), 104 (io), 105 (io), 106 (io), 107 (io), 108 (io), 109 (io), 110 (io), 111 (io), 112 (io), 113 (io), 114 (io), 115 (io), 116 (io), 117 (io), 118 (io), 119 (io), 120 (io), 125 (io), 126 (io), 127 (io), 128 (io)

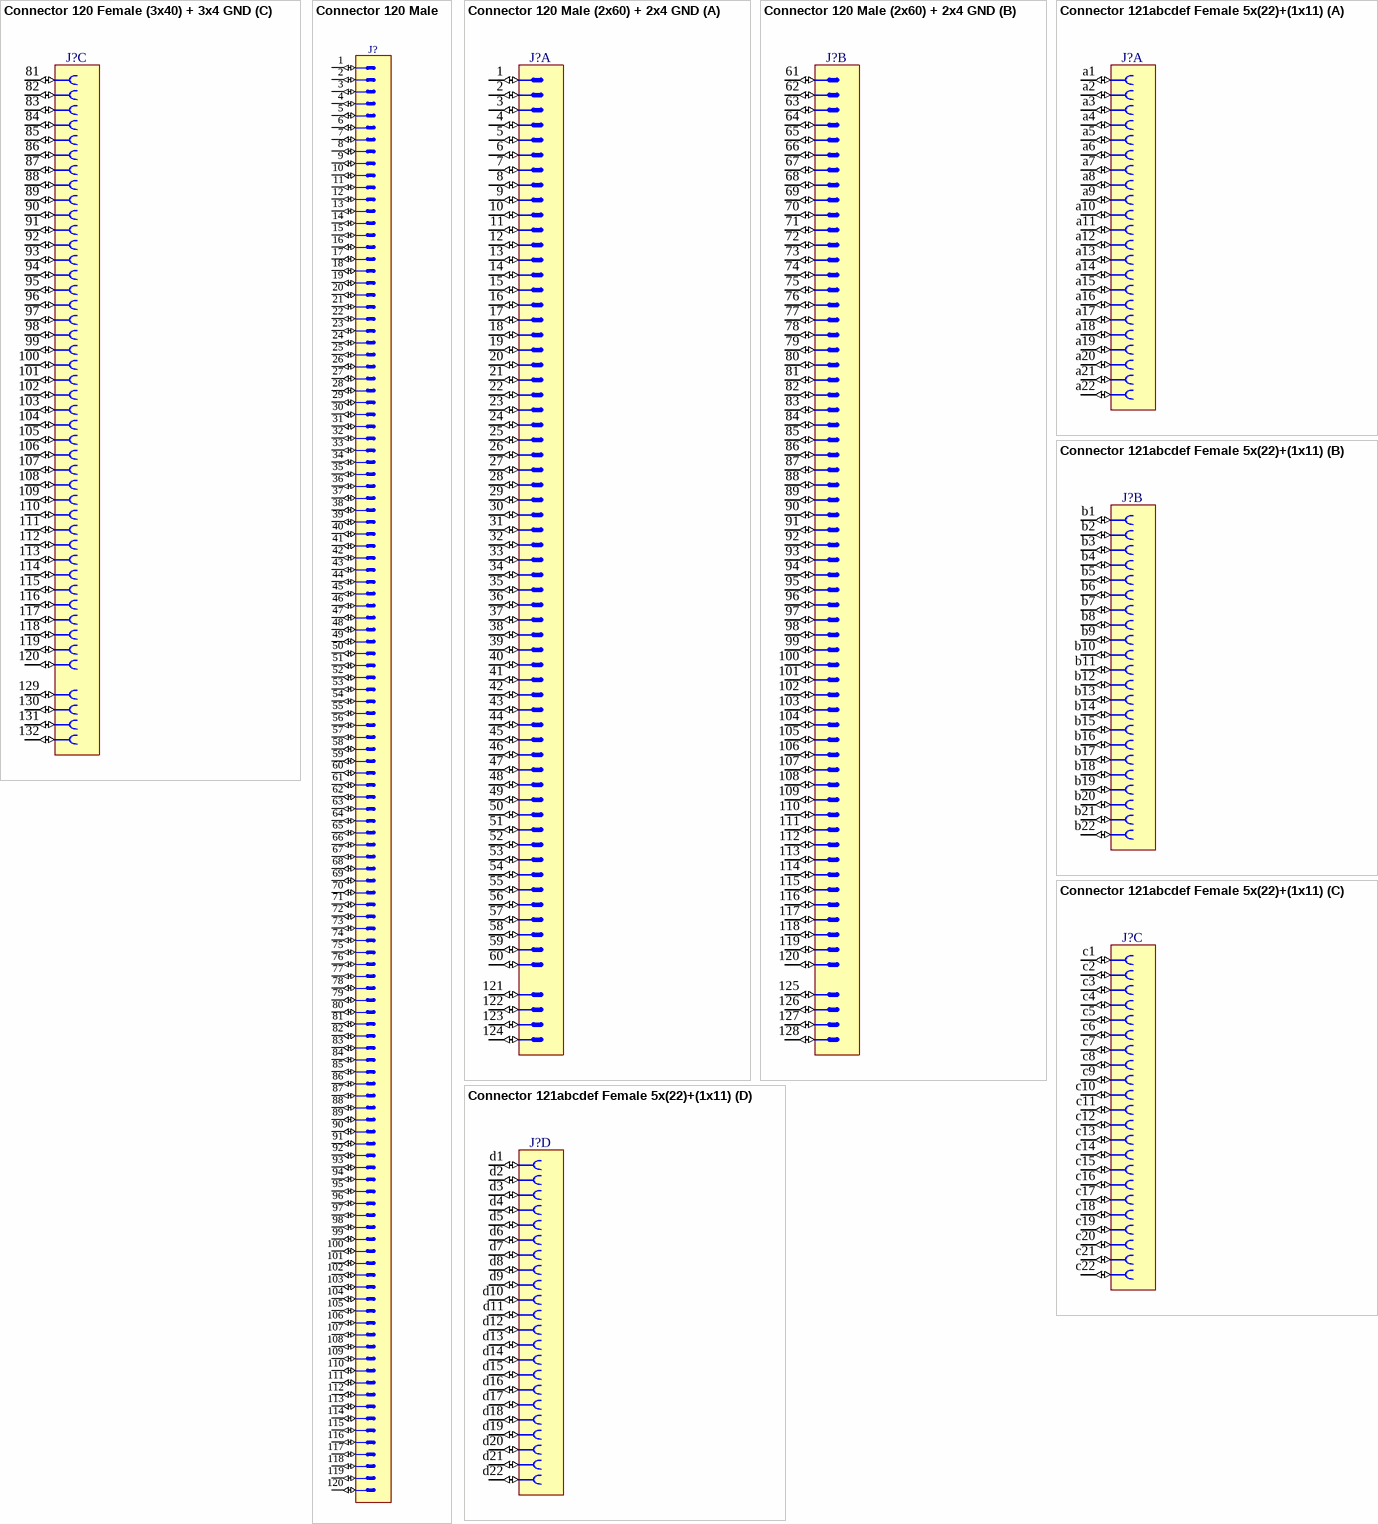
[diagram p18: symbols Connector 120 Female (3x40) + 3x4 GND to Connector 121abcdef Female 5x(22)+(1x11)]

## Connector 120 Female (3x40) + 3x4 GND
designator J?
Connector 120 Female (3x40) + 3x4 GND
part A pins: 1 (io), 2 (io), 3 (io), 4 (io), 5 (io), 6 (io), 7 (io), 8 (io), 9 (io), 10 (io), 11 (io), 12 (io), 13 (io), 14 (io), 15 (io), 16 (io), 17 (io), 18 (io), 19 (io), 20 (io), 21 (io), 22 (io), 23 (io), 24 (io), 25 (io), 26 (io), 27 (io), 28 (io), 29 (io), 30 (io), 31 (io), 32 (io), 33 (io), 34 (io), 35 (io), 36 (io), 37 (io), 38 (io), 39 (io), 40 (io), 121 (io), 122 (io), 123 (io), 124 (io)
part B pins: 41 (io), 42 (io), 43 (io), 44 (io), 45 (io), 46 (io), 47 (io), 48 (io), 49 (io), 50 (io), 51 (io), 52 (io), 53 (io), 54 (io), 55 (io), 56 (io), 57 (io), 58 (io), 59 (io), 60 (io), 61 (io), 62 (io), 63 (io), 64 (io), 65 (io), 66 (io), 67 (io), 68 (io), 69 (io), 70 (io), 71 (io), 72 (io), 73 (io), 74 (io), 75 (io), 76 (io), 77 (io), 78 (io), 79 (io), 80 (io), 125 (io), 126 (io), 127 (io), 128 (io)
part C pins: 81 (io), 82 (io), 83 (io), 84 (io), 85 (io), 86 (io), 87 (io), 88 (io), 89 (io), 90 (io), 91 (io), 92 (io), 93 (io), 94 (io), 95 (io), 96 (io), 97 (io), 98 (io), 99 (io), 100 (io), 101 (io), 102 (io), 103 (io), 104 (io), 105 (io), 106 (io), 107 (io), 108 (io), 109 (io), 110 (io), 111 (io), 112 (io), 113 (io), 114 (io), 115 (io), 116 (io), 117 (io), 118 (io), 119 (io), 120 (io), 129 (io), 130 (io), 131 (io), 132 (io)

## Connector 120 Male
designator J?
Connector 120 Male
pins: 1 (io), 2 (io), 3 (io), 4 (io), 5 (io), 6 (io), 7 (io), 8 (io), 9 (io), 10 (io), 11 (io), 12 (io), 13 (io), 14 (io), 15 (io), 16 (io), 17 (io), 18 (io), 19 (io), 20 (io), 21 (io), 22 (io), 23 (io), 24 (io), 25 (io), 26 (io), 27 (io), 28 (io), 29 (io), 30 (io), 31 (io), 32 (io), 33 (io), 34 (io), 35 (io), 36 (io), 37 (io), 38 (io), 39 (io), 40 (io), 41 (io), 42 (io), 43 (io), 44 (io), 45 (io), 46 (io), 47 (io), 48 (io), 49 (io), 50 (io), 51 (io), 52 (io), 53 (io), 54 (io), 55 (io), 56 (io), 57 (io), 58 (io), 59 (io), 60 (io), 61 (io), 62 (io), 63 (io), 64 (io), 65 (io), 66 (io), 67 (io), 68 (io), 69 (io), 70 (io), 71 (io), 72 (io), 73 (io), 74 (io), 75 (io), 76 (io), 77 (io), 78 (io), 79 (io), 80 (io), 81 (io), 82 (io), 83 (io), 84 (io), 85 (io), 86 (io), 87 (io), 88 (io), 89 (io), 90 (io), 91 (io), 92 (io), 93 (io), 94 (io), 95 (io), 96 (io), 97 (io), 98 (io), 99 (io), 100 (io), 101 (io), 102 (io), 103 (io), 104 (io), 105 (io), 106 (io), 107 (io), 108 (io), 109 (io), 110 (io), 111 (io), 112 (io), 113 (io), 114 (io), 115 (io), 116 (io), 117 (io), 118 (io), 119 (io), 120 (io)
1 alternate drawing of the same symbol

## Connector 120 Male (2x60) + 2x4 GND
designator J?
Connector 120 Male (2x60) + 2x4 GND
part A pins: 1 (io), 2 (io), 3 (io), 4 (io), 5 (io), 6 (io), 7 (io), 8 (io), 9 (io), 10 (io), 11 (io), 12 (io), 13 (io), 14 (io), 15 (io), 16 (io), 17 (io), 18 (io), 19 (io), 20 (io), 21 (io), 22 (io), 23 (io), 24 (io), 25 (io), 26 (io), 27 (io), 28 (io), 29 (io), 30 (io), 31 (io), 32 (io), 33 (io), 34 (io), 35 (io), 36 (io), 37 (io), 38 (io), 39 (io), 40 (io), 41 (io), 42 (io), 43 (io), 44 (io), 45 (io), 46 (io), 47 (io), 48 (io), 49 (io), 50 (io), 51 (io), 52 (io), 53 (io), 54 (io), 55 (io), 56 (io), 57 (io), 58 (io), 59 (io), 60 (io), 121 (io), 122 (io), 123 (io), 124 (io)
part B pins: 61 (io), 62 (io), 63 (io), 64 (io), 65 (io), 66 (io), 67 (io), 68 (io), 69 (io), 70 (io), 71 (io), 72 (io), 73 (io), 74 (io), 75 (io), 76 (io), 77 (io), 78 (io), 79 (io), 80 (io), 81 (io), 82 (io), 83 (io), 84 (io), 85 (io), 86 (io), 87 (io), 88 (io), 89 (io), 90 (io), 91 (io), 92 (io), 93 (io), 94 (io), 95 (io), 96 (io), 97 (io), 98 (io), 99 (io), 100 (io), 101 (io), 102 (io), 103 (io), 104 (io), 105 (io), 106 (io), 107 (io), 108 (io), 109 (io), 110 (io), 111 (io), 112 (io), 113 (io), 114 (io), 115 (io), 116 (io), 117 (io), 118 (io), 119 (io), 120 (io), 125 (io), 126 (io), 127 (io), 128 (io)
1 alternate drawing of the same symbol

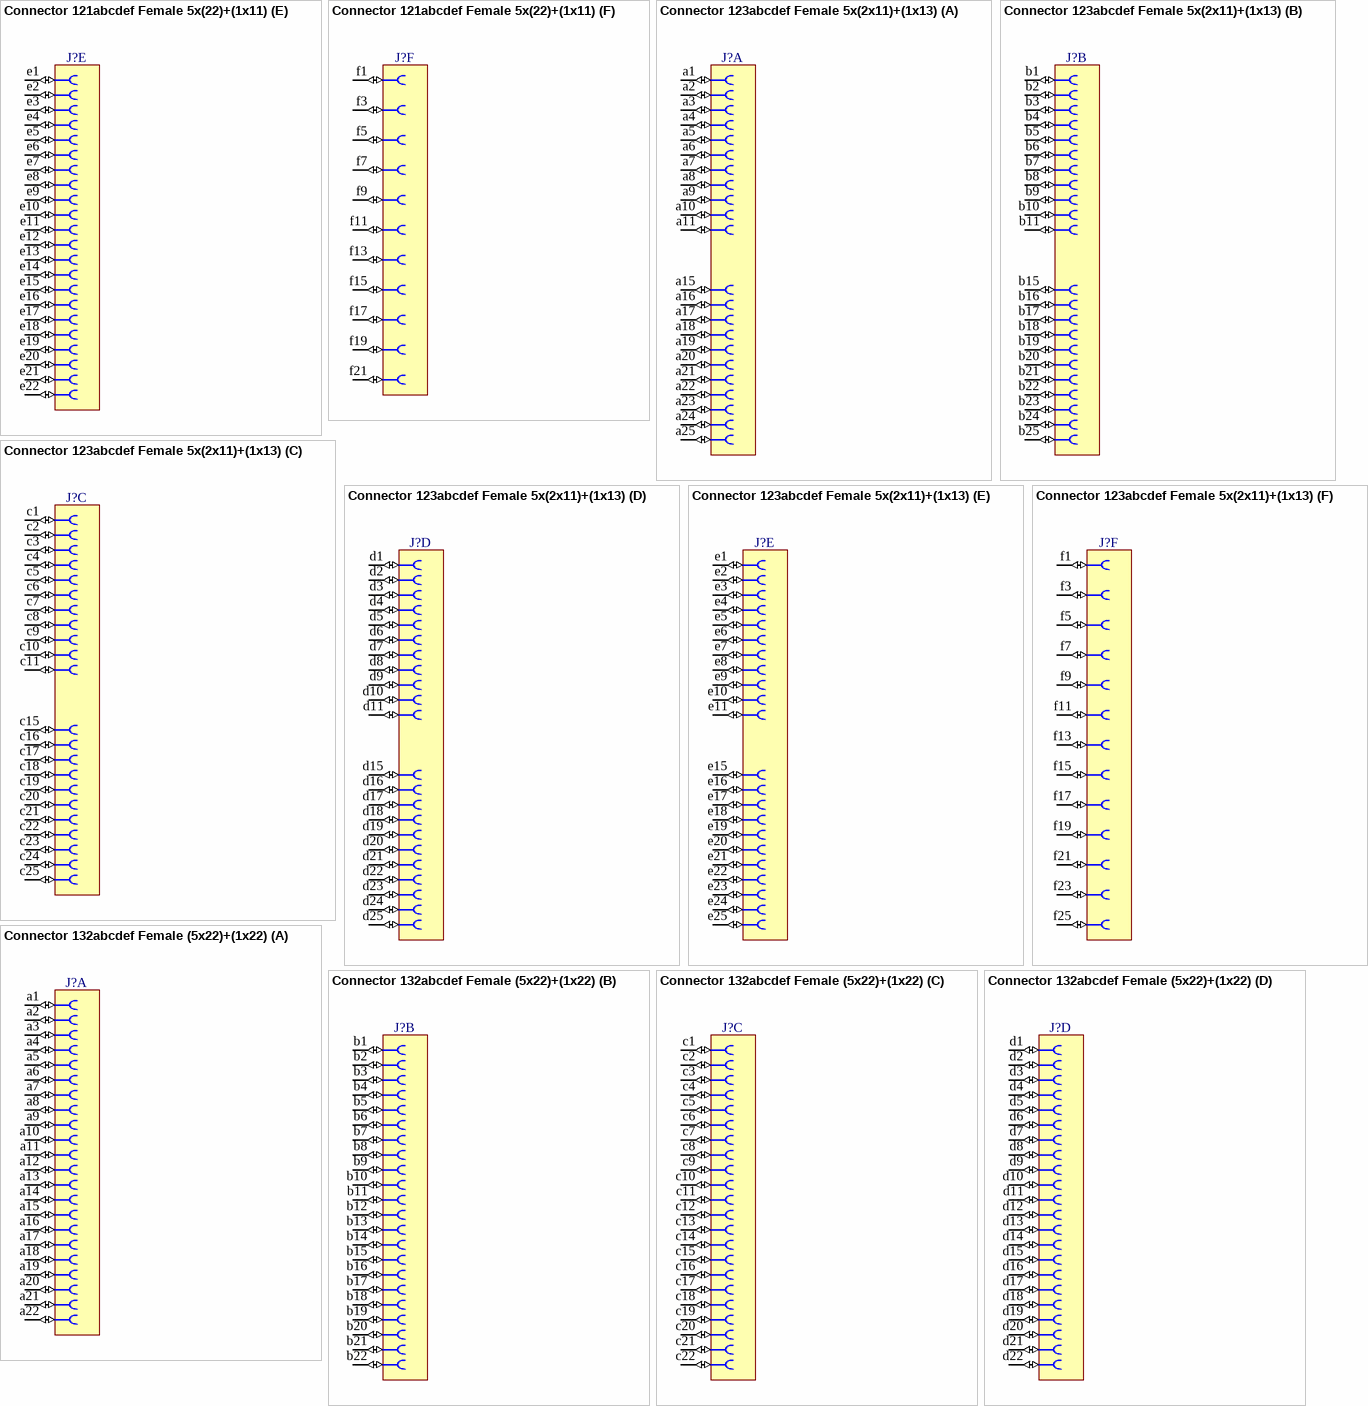
[diagram p19: symbols Connector 121abcdef Female 5x(22)+(1x11) to Connector 132abcdef Female (5x22)+(1x22)]